# Altium schematic symbol library ZX_MyLib.SchLib: 567 symbols (part 3 of 5)
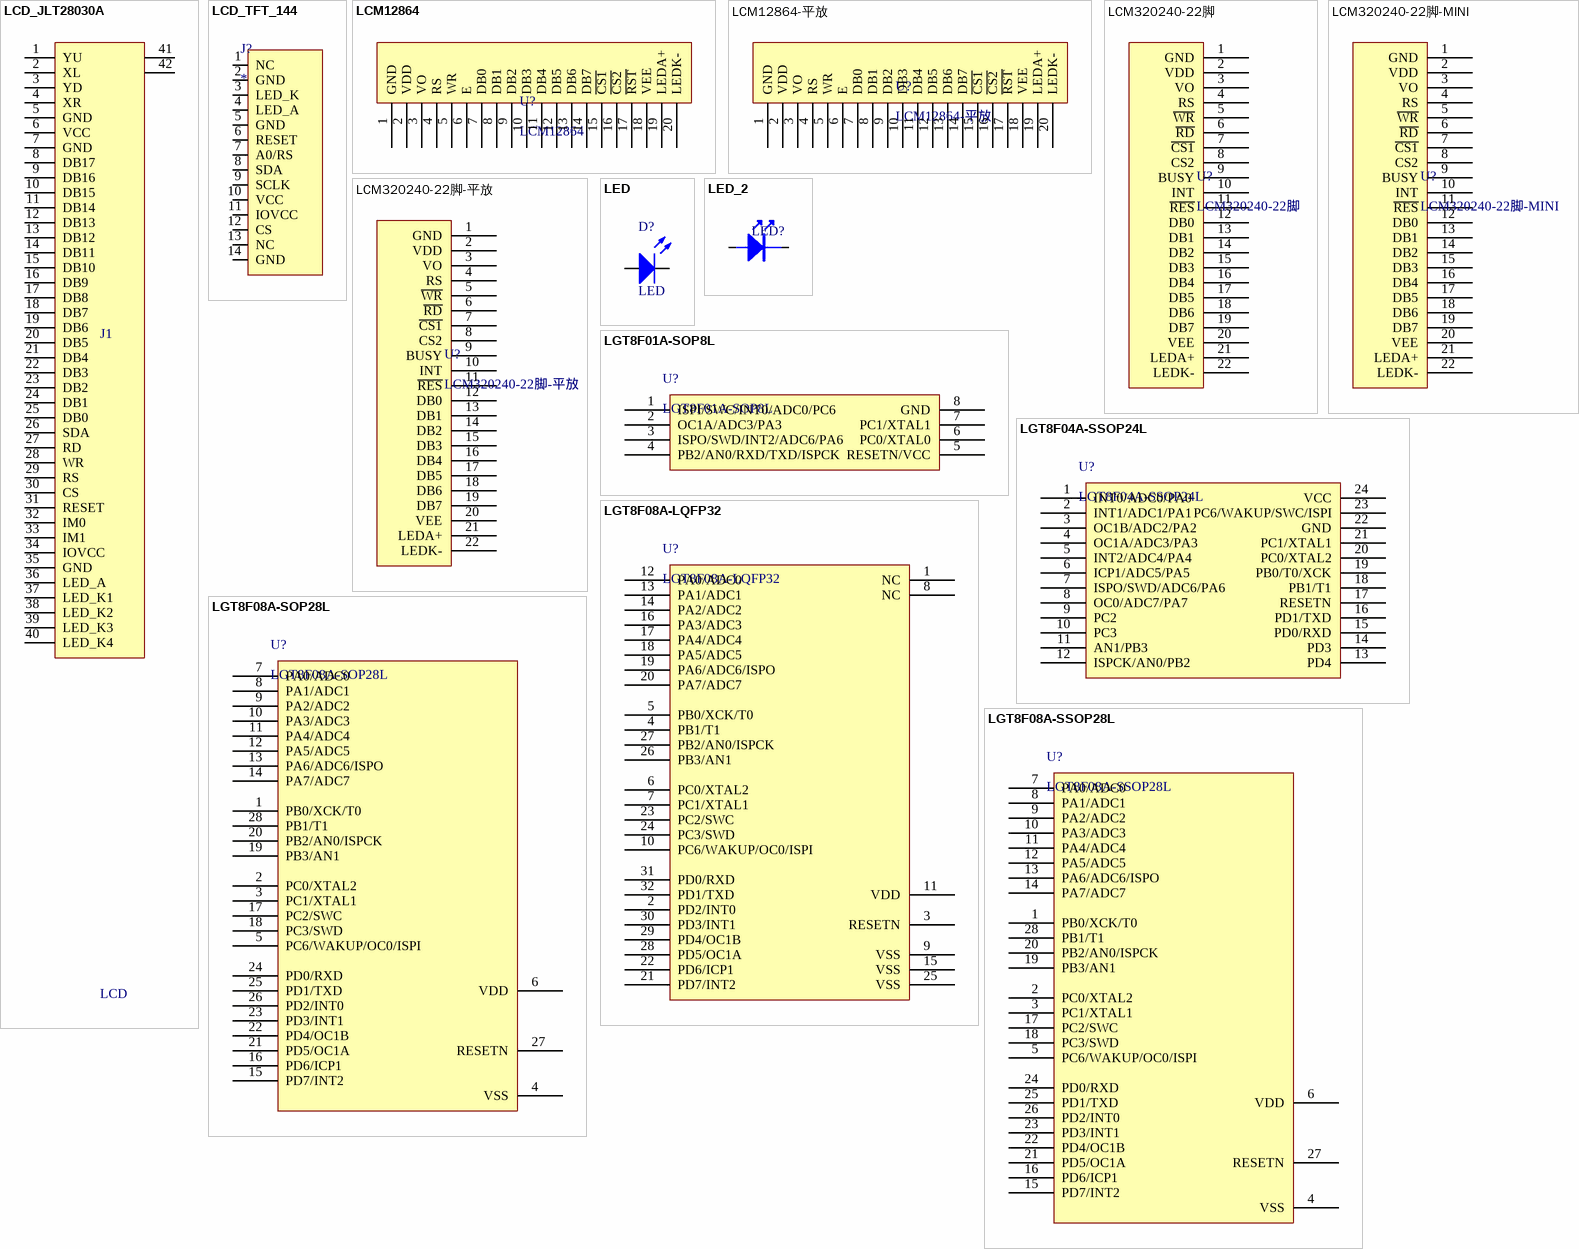
[diagram p32: symbols LCD_JLT28030A to LGT8F08A-SSOP28L]

## LCD_TFT_144
designator J?
footprint LCD_TFT_144 (淘宝深圳市华迪快捷液晶ST7735,1.44寸TFT液晶屏SPI)
pins: 1 NC, 2 GND, 3 LED_K, 4 LED_A, 5 GND, 6 RESET, 7 A0/RS, 8 SDA, 9 SCLK, 10 VCC, 11 IOVCC, 12 CS, 13 NC, 14 GND

## LCM12864
designator U?
footprint LCM12864
pins: 1 GND, 2 VDD, 3 VO, 4 RS, 5 WR, 6 E, 7 DB0, 8 DB1, 9 DB2, 10 DB3, 11 DB4, 12 DB5, 13 DB6, 14 DB7, 15 ~{CS1}, 16 ~{CS2}, 17 ~{RST}, 18 VEE, 19 LEDA+, 20 LEDK-

## LCM12864-平放
designator U?
footprint LCM12864-平放
pins: 1 GND, 2 VDD, 3 VO, 4 RS, 5 WR, 6 E, 7 DB0, 8 DB1, 9 DB2, 10 DB3, 11 DB4, 12 DB5, 13 DB6, 14 DB7, 15 ~{CS1}, 16 ~{CS2}, 17 ~{RST}, 18 VEE, 19 LEDA+, 20 LEDK-

## LCM320240-22脚
designator U?
footprint LCM320240-22脚
pins: 1 GND, 2 VDD, 3 VO, 4 RS, 5 ~{WR}, 6 ~{RD}, 7 ~{CS1}, 8 CS2, 9 BUSY, 10 INT, 11 ~{RES}, 12 DB0, 13 DB1, 14 DB2, 15 DB3, 16 DB4, 17 DB5, 18 DB6, 19 DB7, 20 VEE, 21 LEDA+, 22 LEDK-

## LCM320240-22脚-MINI
designator U?
footprint LCM320240-22脚-Mini (LCM320240-22脚)
pins: 1 GND, 2 VDD, 3 VO, 4 RS, 5 ~{WR}, 6 ~{RD}, 7 ~{CS1}, 8 CS2, 9 BUSY, 10 INT, 11 ~{RES}, 12 DB0, 13 DB1, 14 DB2, 15 DB3, 16 DB4, 17 DB5, 18 DB6, 19 DB7, 20 VEE, 21 LEDA+, 22 LEDK-

## LCM320240-22脚-平放
designator U?
footprint LCM320240-22脚-平放
pins: 1 GND, 2 VDD, 3 VO, 4 RS, 5 ~{WR}, 6 ~{RD}, 7 ~{CS1}, 8 CS2, 9 BUSY, 10 INT, 11 ~{RES}, 12 DB0, 13 DB1, 14 DB2, 15 DB3, 16 DB4, 17 DB5, 18 DB6, 19 DB7, 20 VEE, 21 LEDA+, 22 LEDK-

## LED
designator D?
贴片发光二极管; Published: 8-Jun-2000; LatestRevisionDate: 08-Jul-2005; LatestRevisionNote: Mech Layer 1 removed.; PackageReference: LED-1; Publisher: Altium Limited
footprint 0805 - LED
footprint 0603_LED_SMT
pins: 1 A, 2 K

## LED_2
designator LED?
SMT LED
pins: 1 A, 2 K

## LGT8F01A-SOP8L
designator U?
footprint LGT8F01A-SOP8L
pins: 1 ISPI/SWC/INT0/ADC0/PC6, 2 OC1A/ADC3/PA3, 3 ISPO/SWD/INT2/ADC6/PA6, 4 PB2/AN0/RXD/TXD/ISPCK, 5 RESETN/VCC, 6 PC0/XTAL0, 7 PC1/XTAL1, 8 GND

## LGT8F04A-SSOP24L
designator U?
footprint LGT8F04A-SSOP24 (SSOP, Plastic; 24 Leads; Body Width 5.3 mm; Pitch 0.65 mm)
pins: 1 INT0/ADC0/PA0, 2 INT1/ADC1/PA1, 3 OC1B/ADC2/PA2, 4 OC1A/ADC3/PA3, 5 INT2/ADC4/PA4, 6 ICP1/ADC5/PA5, 7 ISPO/SWD/ADC6/PA6, 8 OC0/ADC7/PA7, 9 PC2, 10 PC3, 11 AN1/PB3, 12 ISPCK/AN0/PB2, 13 PD4, 14 PD3, 15 PD0/RXD, 16 PD1/TXD, 17 RESETN, 18 PB1/T1, 19 PB0/T0/XCK, 20 PC0/XTAL2, 21 PC1/XTAL1, 22 GND, 23 PC6/WAKUP/SWC/ISPI, 24 VCC

## LGT8F08A-LQFP32
designator U?
Publisher: www.ourdev.cn; PackageReference: LQFP32; PackageDescription: 28-Lead Plastic Small Outline (SO) - Wide 7.50mm Body [SOIC]; ComponentLink1Description: Datasheet; ComponentLink1URL: http://www.mcugreen.com/LGT8F0XA/docs/LGT8F0XA%20Series%20Programming%20Manual%20v1.2.pdf; ComponentLink2Description: Packaging Specification; ComponentLink3Description: LogicGreen Home; ComponentLink3URL: http://www.mcugreen.com/; DatasheetVersion: v1.2; LatestRevisionDate: 2012/04/18; Supplier 1: www.mailshop.cn; Supplier Part Number 1: LGT8F08A-SOP28L; Supplier Part Number 3: 10647
footprint LGT8F08A-LQFP32 (32-Pin Thin Quad Flat Pack 0.8 mm Pitch, IPC Medium Density)
pins: 1 NC, 2 PD2/INT0, 3 RESETN, 4 PB1/T1, 5 PB0/XCK/T0, 6 PC0/XTAL2, 7 PC1/XTAL1, 8 NC, 9 VSS, 10 PC6/WAKUP/OC0/ISPI, 11 VDD, 12 PA0/ADC0, 13 PA1/ADC1, 14 PA2/ADC2, 15 VSS, 16 PA3/ADC3, 17 PA4/ADC4, 18 PA5/ADC5, 19 PA6/ADC6/ISPO, 20 PA7/ADC7, 21 PD7/INT2, 22 PD6/ICP1, 23 PC2/SWC, 24 PC3/SWD, 25 VSS, 26 PB3/AN1, 27 PB2/AN0/ISPCK, 28 PD5/OC1A, 29 PD4/OC1B, 30 PD3/INT1, 31 PD0/RXD, 32 PD1/TXD
1 alternate drawing of the same symbol

## LGT8F08A-SOP28L
designator U?
Publisher: www.ourdev.cn; PackageReference: SOP28L; PackageDescription: 28-Lead Plastic Small Outline (SO) - Wide 7.50mm Body [SOIC]; ComponentLink1Description: Datasheet; ComponentLink1URL: http://www.mcugreen.com/LGT8F0XA/docs/LGT8F0XA%20Series%20Programming%20Manual%20v1.2.pdf; ComponentLink2Description: Packaging Specification; ComponentLink3Description: LogicGreen Home; ComponentLink3URL: http://www.mcugreen.com/; DatasheetVersion: v1.2; LatestRevisionDate: 2012/04/18; Supplier 1: www.mailshop.cn; Supplier Part Number 1: LGT8F08A-SOP28L; Supplier Part Number 3: 10647
footprint LGT8F08A-SOP28L (SOP, 28-Leads, Body 17.6x7.7mm (max), Pitch 1.27mm, IPC Low Density)
pins: 1 PB0/XCK/T0, 2 PC0/XTAL2, 3 PC1/XTAL1, 4 VSS, 5 PC6/WAKUP/OC0/ISPI, 6 VDD, 7 PA0/ADC0, 8 PA1/ADC1, 9 PA2/ADC2, 10 PA3/ADC3, 11 PA4/ADC4, 12 PA5/ADC5, 13 PA6/ADC6/ISPO, 14 PA7/ADC7, 15 PD7/INT2, 16 PD6/ICP1, 17 PC2/SWC, 18 PC3/SWD, 19 PB3/AN1, 20 PB2/AN0/ISPCK, 21 PD5/OC1A, 22 PD4/OC1B, 23 PD3/INT1, 24 PD0/RXD, 25 PD1/TXD, 26 PD2/INT0, 27 RESETN, 28 PB1/T1
1 alternate drawing of the same symbol

## LGT8F08A-SSOP28L
designator U?
Publisher: www.ourdev.cn; PackageReference: SSOP28; PackageDescription: 28-Lead Plastic Small Outline (SO) - Wide 7.50mm Body [SOIC]; ComponentLink1Description: Datasheet; ComponentLink1URL: http://www.mcugreen.com/LGT8F0XA/docs/LGT8F0XA%20Series%20Programming%20Manual%20v1.2.pdf; ComponentLink2Description: Packaging Specification; ComponentLink3Description: LogicGreen Home; ComponentLink3URL: http://www.mcugreen.com/; DatasheetVersion: v1.2; LatestRevisionDate: 2012/04/18; Supplier 1: www.mailshop.cn; Supplier Part Number 1: LGT8F08A-SOP28L; Supplier Part Number 3: 10647
footprint LGT8F08A-SSOP28 (SSOP, Plastic; 28 Leads; Body Width 5.3 mm; Pitch 0.65 mm)
pins: 1 PB0/XCK/T0, 2 PC0/XTAL2, 3 PC1/XTAL1, 4 VSS, 5 PC6/WAKUP/OC0/ISPI, 6 VDD, 7 PA0/ADC0, 8 PA1/ADC1, 9 PA2/ADC2, 10 PA3/ADC3, 11 PA4/ADC4, 12 PA5/ADC5, 13 PA6/ADC6/ISPO, 14 PA7/ADC7, 15 PD7/INT2, 16 PD6/ICP1, 17 PC2/SWC, 18 PC3/SWD, 19 PB3/AN1, 20 PB2/AN0/ISPCK, 21 PD5/OC1A, 22 PD4/OC1B, 23 PD3/INT1, 24 PD0/RXD, 25 PD1/TXD, 26 PD2/INT0, 27 RESETN, 28 PB1/T1
1 alternate drawing of the same symbol

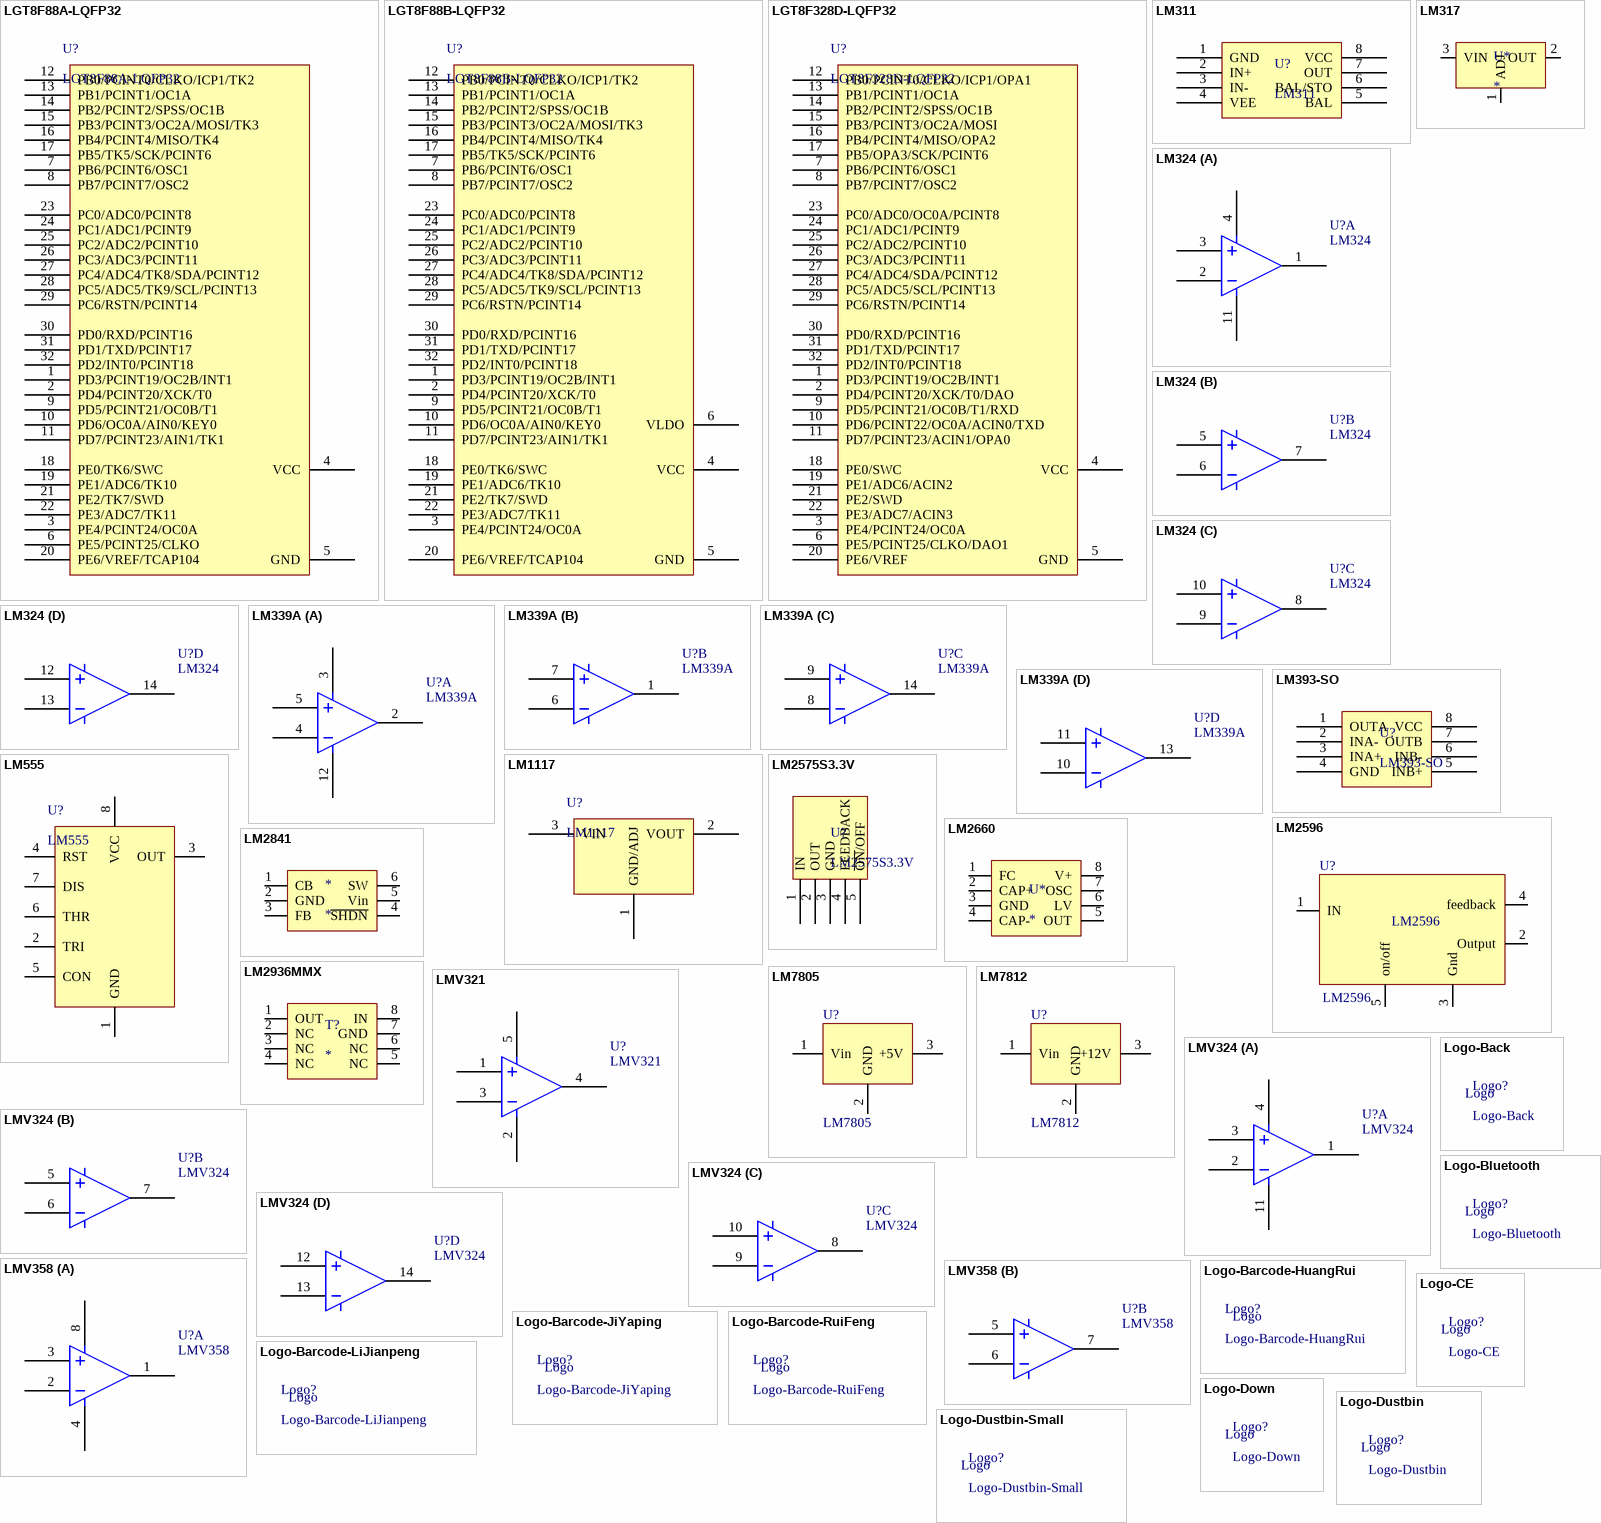
[diagram p15: symbols LGT8F88A-LQFP32 to Logo-Dustbin-Small]

## LGT8F88A-LQFP32
designator U?
Publisher: www.ourdev.cn; PackageReference: LQFP32; PackageDescription: 28-Lead Plastic Small Outline (SO) - Wide 7.50mm Body [SOIC]; ComponentLink1Description: Datasheet; ComponentLink1URL: http://www.mcugreen.com/LGT8F0XA/docs/LGT8F0XA%20Series%20Programming%20Manual%20v1.2.pdf; ComponentLink2Description: Packaging Specification; ComponentLink3Description: LogicGreen Home; ComponentLink3URL: http://www.mcugreen.com/; DatasheetVersion: v1.1.1; LatestRevisionDate: 2013/06/27; Supplier 1: www.mailshop.cn; Supplier Part Number 1: LGT8F88A-LQFP32
footprint LGT8F88A-LQFP32 (32-Pin Thin Quad Flat Pack 0.8 mm Pitch, IPC Medium Density)
pins: 1 PD3/PCINT19/OC2B/INT1, 2 PD4/PCINT20/XCK/T0, 3 PE4/PCINT24/OC0A, 4 VCC, 5 GND, 6 PE5/PCINT25/CLKO, 7 PB6/PCINT6/OSC1, 8 PB7/PCINT7/OSC2, 9 PD5/PCINT21/OC0B/T1, 10 PD6/OC0A/AIN0/KEY0, 11 PD7/PCINT23/AIN1/TK1, 12 PB0/PCINT0/CLKO/ICP1/TK2, 13 PB1/PCINT1/OC1A, 14 PB2/PCINT2/SPSS/OC1B, 15 PB3/PCINT3/OC2A/MOSI/TK3, 16 PB4/PCINT4/MISO/TK4, 17 PB5/TK5/SCK/PCINT6, 18 PE0/TK6/SWC, 19 PE1/ADC6/TK10, 20 PE6/VREF/TCAP104, 21 PE2/TK7/SWD, 22 PE3/ADC7/TK11, 23 PC0/ADC0/PCINT8, 24 PC1/ADC1/PCINT9, 25 PC2/ADC2/PCINT10, 26 PC3/ADC3/PCINT11, 27 PC4/ADC4/TK8/SDA/PCINT12, 28 PC5/ADC5/TK9/SCL/PCINT13, 29 PC6/RSTN/PCINT14, 30 PD0/RXD/PCINT16, 31 PD1/TXD/PCINT17, 32 PD2/INT0/PCINT18
1 alternate drawing of the same symbol

## LGT8F88B-LQFP32
designator U?
Publisher: www.ourdev.cn; PackageReference: LQFP32; PackageDescription: 28-Lead Plastic Small Outline (SO) - Wide 7.50mm Body [SOIC]; ComponentLink1Description: Datasheet; ComponentLink1URL: http://www.mcugreen.com/LGT8F0XA/docs/LGT8F0XA%20Series%20Programming%20Manual%20v1.2.pdf; ComponentLink2Description: Packaging Specification; ComponentLink3Description: LogicGreen Home; ComponentLink3URL: http://www.mcugreen.com/; DatasheetVersion: v1.1.1; LatestRevisionDate: 2013/06/27; Supplier 1: www.mailshop.cn; Supplier Part Number 1: LGT8F88B-LQFP32
footprint LGT8F88A-LQFP32 (32-Pin Thin Quad Flat Pack 0.8 mm Pitch, IPC Medium Density)
pins: 1 PD3/PCINT19/OC2B/INT1, 2 PD4/PCINT20/XCK/T0, 3 PE4/PCINT24/OC0A, 4 VCC, 5 GND, 6 VLDO, 7 PB6/PCINT6/OSC1, 8 PB7/PCINT7/OSC2, 9 PD5/PCINT21/OC0B/T1, 10 PD6/OC0A/AIN0/KEY0, 11 PD7/PCINT23/AIN1/TK1, 12 PB0/PCINT0/CLKO/ICP1/TK2, 13 PB1/PCINT1/OC1A, 14 PB2/PCINT2/SPSS/OC1B, 15 PB3/PCINT3/OC2A/MOSI/TK3, 16 PB4/PCINT4/MISO/TK4, 17 PB5/TK5/SCK/PCINT6, 18 PE0/TK6/SWC, 19 PE1/ADC6/TK10, 20 PE6/VREF/TCAP104, 21 PE2/TK7/SWD, 22 PE3/ADC7/TK11, 23 PC0/ADC0/PCINT8, 24 PC1/ADC1/PCINT9, 25 PC2/ADC2/PCINT10, 26 PC3/ADC3/PCINT11, 27 PC4/ADC4/TK8/SDA/PCINT12, 28 PC5/ADC5/TK9/SCL/PCINT13, 29 PC6/RSTN/PCINT14, 30 PD0/RXD/PCINT16, 31 PD1/TXD/PCINT17, 32 PD2/INT0/PCINT18
1 alternate drawing of the same symbol

## LGT8F328D-LQFP32
designator U?
Publisher: www.ourdev.cn; PackageReference: LQFP32; PackageDescription: 28-Lead Plastic Small Outline (SO) - Wide 7.50mm Body [SOIC]; ComponentLink1Description: Datasheet; ComponentLink1URL: http://www.mcugreen.com/LGT8F0XA/docs/LGT8F0XA%20Series%20Programming%20Manual%20v1.2.pdf; ComponentLink2Description: Packaging Specification; ComponentLink3Description: LogicGreen Home; ComponentLink3URL: http://www.mcugreen.com/; DatasheetVersion: v1.1.1; LatestRevisionDate: 2013/06/27; Supplier 1: www.mailshop.cn; Supplier Part Number 1: LGT8F328D-LQFP32
footprint LQFP32_L (Thin QFP, 32-Leads, Body 7x7mm, Pitch 0.8mm, IPC High Density)
footprint LQFP32_M (Thin QFP, 32-Leads, Body 7x7mm, Pitch 0.8mm, IPC Low Density)
footprint LQFP32_N (Thin QFP, 32-Leads, Body 7x7mm, Pitch 0.8mm, IPC Medium Density)
pins: 1 PD3/PCINT19/OC2B/INT1, 2 PD4/PCINT20/XCK/T0/DAO, 3 PE4/PCINT24/OC0A, 4 VCC, 5 GND, 6 PE5/PCINT25/CLKO/DAO1, 7 PB6/PCINT6/OSC1, 8 PB7/PCINT7/OSC2, 9 PD5/PCINT21/OC0B/T1/RXD, 10 PD6/PCINT22/OC0A/ACIN0/TXD, 11 PD7/PCINT23/ACIN1/OPA0, 12 PB0/PCINT0/CLKO/ICP1/OPA1, 13 PB1/PCINT1/OC1A, 14 PB2/PCINT2/SPSS/OC1B, 15 PB3/PCINT3/OC2A/MOSI, 16 PB4/PCINT4/MISO/OPA2, 17 PB5/OPA3/SCK/PCINT6, 18 PE0/SWC, 19 PE1/ADC6/ACIN2, 20 PE6/VREF, 21 PE2/SWD, 22 PE3/ADC7/ACIN3, 23 PC0/ADC0/OC0A/PCINT8, 24 PC1/ADC1/PCINT9, 25 PC2/ADC2/PCINT10, 26 PC3/ADC3/PCINT11, 27 PC4/ADC4/SDA/PCINT12, 28 PC5/ADC5/SCL/PCINT13, 29 PC6/RSTN/PCINT14, 30 PD0/RXD/PCINT16, 31 PD1/TXD/PCINT17, 32 PD2/INT0/PCINT18
1 alternate drawing of the same symbol

## LM311
designator U?
footprint LM311
pins: 1 GND, 2 IN+, 3 IN-, 4 VEE, 5 BAL, 6 BAL/STO, 7 OUT, 8 VCC

## LM317
designator U*
footprint SOT-223
pins: 1 ADJ, 2 OUT, 3 VIN

## LM324
designator U?
Low-Power Amplifiers
footprint LM324-D
footprint LM324-N
part A pins: 1 1OUT "Output 1", 2 1IN– "Inverting input 1", 3 1IN+ "Non-inverting input 1", 4 VCC "Positive supply voltage", 11 GND "Ground"
part B pins: 5 2IN+ "Non-inverting input 2", 6 2IN- "Inverting input 2", 7 2OUT "Output 2"
part C pins: 8 3OUT "Output 3", 9 3IN- "Inverting input 1", 10 3IN+ "Non-inverting input 3"
part D pins: 12 4IN+ "Non-inverting input 4", 13 4IN- "Inverting input 4", 14 4OUT "Output 4"

## LM339A
designator U?
footprint LM339A
part A pins: 2, 3, 4, 5, 12
part B pins: 1, 6, 7
part C pins: 8, 9, 14
part D pins: 10, 11, 13

## LM393-SO
designator U?
footprint LM393-SO
pins: 1 OUTA, 2 INA-, 3 INA+, 4 GND, 5 INB+, 6 INB-, 7 OUTB, 8 VCC

## LM555
designator U?
Timer,highly stable device for generating accurate timedelays or oscillation.
footprint DIP-8 (DIP8封装，100mil间距，300mil引脚宽度)
footprint SOP-8 (8-Pin Small Outline Integrated Circuit 1.27 mm Pitch, IPC Low Density)
pins: 1 GND, 2 TRI, 3 OUT, 4 RST, 5 CON, 6 THR, 7 DIS, 8 VCC

## LM1117
designator U?
LM1117/LM1117I 800mA Low-Dropout Linear Regulator
footprint SOT-223 (3 LEAD SOT-223 PLASTIC PACKAGE)
pins: 1 GND/ADJ "Ground or Adjust", 2 VOUT "Voltage Output", 3 VIN "Voltage Input"

## LM2575S3.3V
designator U?
footprint LM2575S3.3V
pins: 1 IN, 2 OUT, 3 GND, 4 FEEDBACK, 5 ~{ON}/OFF

## LM2596
designator U?
footprint TO-263-5
pins: 1 IN, 2 Output, 3 Gnd, 4 feedback, 5 on/off

## LM2660
designator U*
footprint MSOP8
pins: 1 FC, 2 CAP+, 3 GND, 4 CAP-, 5 OUT, 6 LV, 7 OSC, 8 V+

## LM2841
designator *
footprint SOT-6L
pins: 1 CB, 2 GND, 3 FB, 4 ~{SHDN}, 5 Vin, 6 SW

## LM2936MMX
designator T?
LM2936MMX-5.0
footprint MSOP8
pins: 1 OUT, 2 NC, 3 NC, 4 NC, 5 NC, 6 NC, 7 GND, 8 IN

## LM7805
designator U?
LM7805 POSITIVE-VOLTAGE REGULATORS
footprint LM78XX
pins: 1 Vin, 2 GND, 3 +5V

## LM7812
designator U?
LM7812 POSITIVE-VOLTAGE REGULATORS
footprint LM78XX
pins: 1 Vin, 2 GND, 3 +12V

## LMV321
designator U?
Low-Voltage Rail-To-Rail Output Operational Amplifiers
footprint SC70-5 (SC70/SOT-323 (DCK) Package. 5-Lead Plastic SC70.)
footprint SOT23-5 (SOT-23/SC-74A; 5 Leads; Body 3 x 3 mm, inc. leads (LxW max))
pins: 1 1IN+ "Non-inverting input 1", 2 GND "Ground", 3 1IN– "Inverting input 1", 4 1OUT "Output 1", 5 VCC "Positive supply voltage"

## LMV324
designator U?
Low-Voltage Rail-To-Rail Output Operational Amplifiers
footprint LM324-D
part A pins: 1 1OUT "Output 1", 2 1IN– "Inverting input 1", 3 1IN+ "Non-inverting input 1", 4 VCC "Positive supply voltage", 11 GND "Ground"
part B pins: 5 2IN+ "Non-inverting input 2", 6 2IN- "Inverting input 2", 7 2OUT "Output 2"
part C pins: 8 3OUT "Output 3", 9 3IN- "Inverting input 1", 10 3IN+ "Non-inverting input 3"
part D pins: 12 4IN+ "Non-inverting input 4", 13 4IN- "Inverting input 4", 14 4OUT "Output 4"

## LMV358
designator U?
Low-Voltage Rail-To-Rail Output Operational Amplifiers
footprint SOP-8_N (8-Pin Small Outline Integrated Circuit 1.27 mm Pitch, IPC Medium Density)
footprint SOP-8_L (8-Pin Small Outline Integrated Circuit 1.27 mm Pitch, IPC High Density)
footprint SOP-8_M (8-Pin Small Outline Integrated Circuit 1.27 mm Pitch, IPC Low Density)
part A pins: 1 1OUT "Output 1", 2 1IN– "Inverting input 1", 3 1IN+ "Non-inverting input 1", 4 GND "Ground", 8 VCC "Positive supply voltage"
part B pins: 5 2IN+ "Non-inverting input 2", 6 2IN- "Inverting input 2", 7 2OUT "Output 2"

## Logo-Back
designator Logo?
footprint LOGO-BACK
text: Logo

## Logo-Barcode-HuangRui
designator Logo?
footprint Logo-Barcode-HuangRui
footprint Logo-Barcode-HuangRui-Big (Logo-Barcode-HuangRui)
text: Logo

## Logo-Barcode-JiYaping
designator Logo?
footprint Logo-Barcode-JiYaping-Big (Logo-Barcode-JiYaping)
text: Logo

## Logo-Barcode-LiJianpeng
designator Logo?
footprint Logo-Barcode-LiJianpeng
text: Logo

## Logo-Barcode-RuiFeng
designator Logo?
footprint LOGO-BARCODE-RUIFENG
text: Logo

## Logo-Bluetooth
designator Logo?
footprint Logo-Bluetooth
text: Logo

## Logo-CE
designator Logo?
footprint Logo-CE
text: Logo

## Logo-Down
designator Logo?
footprint LOGO-DOWN
text: Logo

## Logo-Dustbin
designator Logo?
footprint LOGO-DUSTBIN
text: Logo

## Logo-Dustbin-Small
designator Logo?
footprint Logo-Dustbin-Small
text: Logo

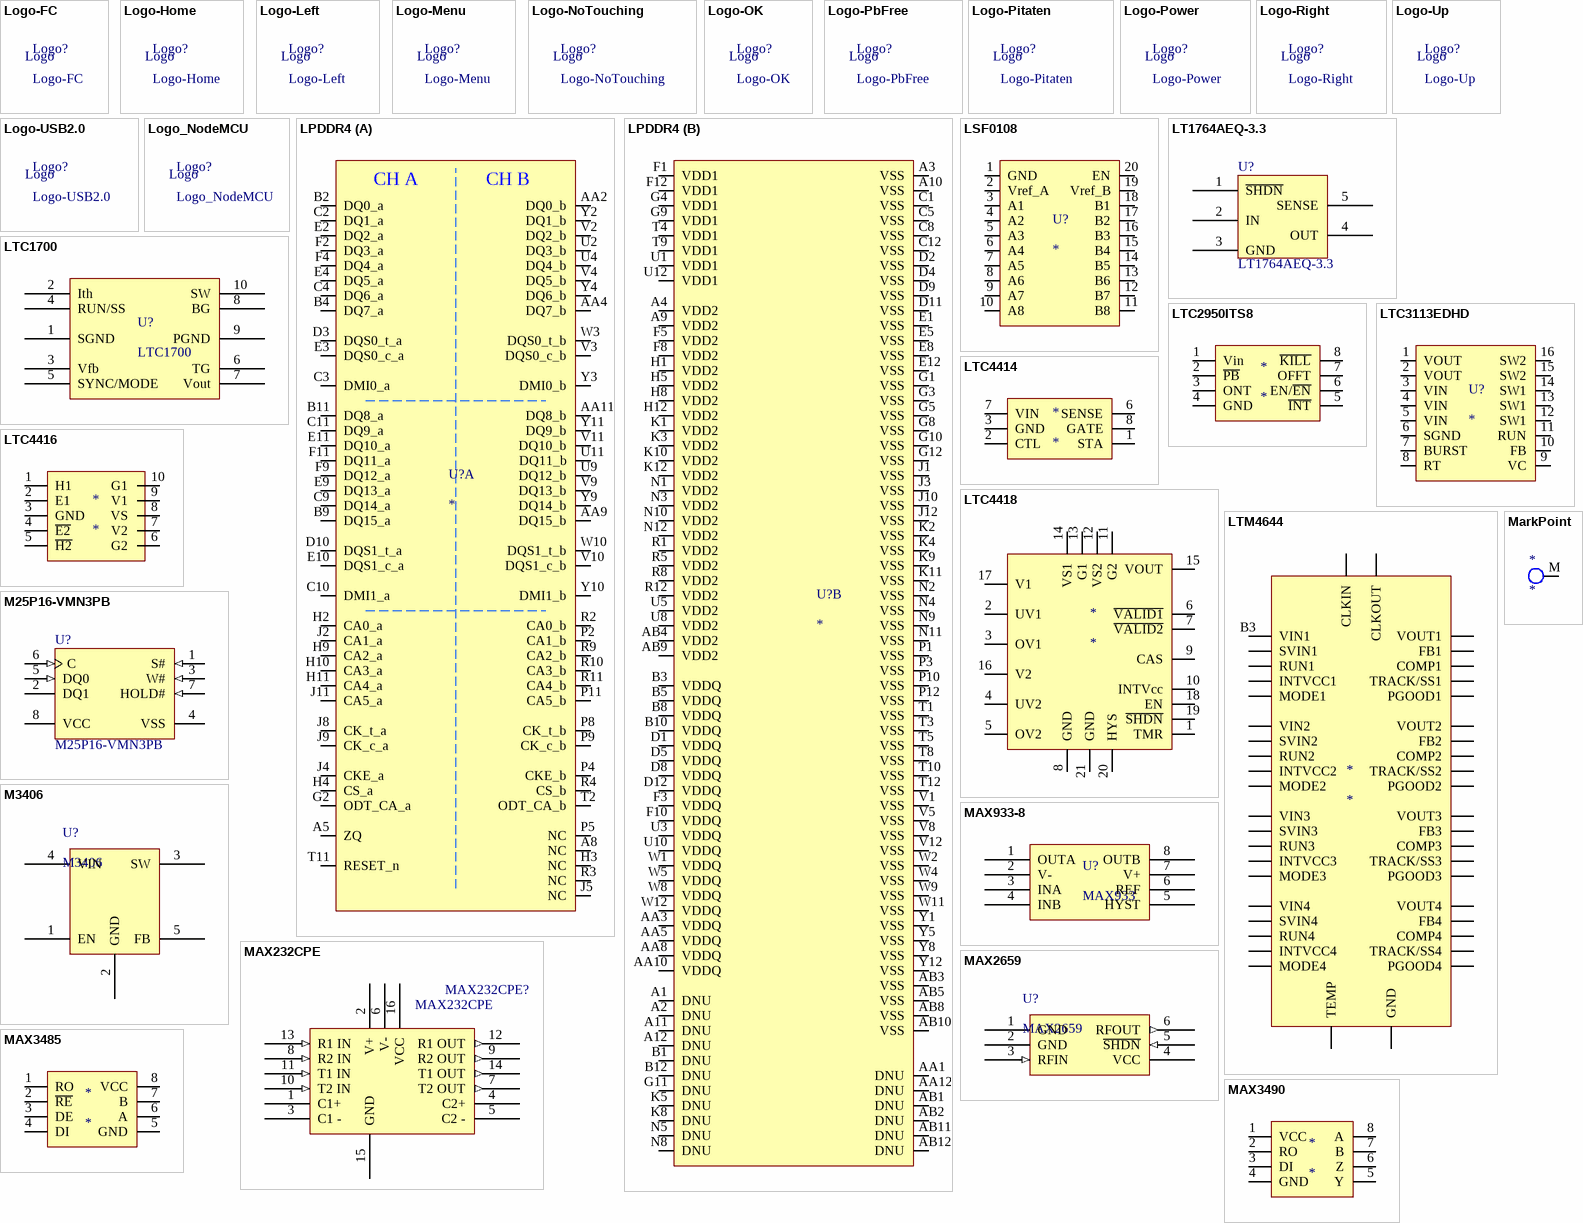
[diagram p16: symbols Logo-FC to MAX3490]

## Logo-FC
designator Logo?
footprint Logo-FC
text: Logo

## Logo-Home
designator Logo?
footprint LOGO-HOME
text: Logo

## Logo-Left
designator Logo?
footprint LOGO-LEFT
text: Logo

## Logo-Menu
designator Logo?
footprint LOGO-MENU
text: Logo

## Logo-NoTouching
designator Logo?
footprint LOGO-NOTOUCHING
text: Logo

## Logo-OK
designator Logo?
footprint LOGO-OK
text: Logo

## Logo-PbFree
designator Logo?
footprint LOGO-PBFREE
text: Logo

## Logo-Pitaten
designator Logo?
footprint Logo-Pitaten
text: Logo

## Logo-Power
designator Logo?
footprint LOGO-POWER
text: Logo

## Logo-Right
designator Logo?
footprint LOGO-RIGHT
text: Logo

## Logo-Up
designator Logo?
footprint LOGO-UP
text: Logo

## Logo-USB2.0
designator Logo?
footprint Logo-USB2.0
text: Logo

## Logo_NodeMCU
designator Logo?
Logo NodeMCU
footprint Logo_NodeMCU_700x992 (Logo NodeMCU)
text: Logo

## LPDDR4
designator U?
footprint FBGA_200 (LPDDR4, 10x15mm)
part A pins: A5 ZQ, A8 NC, AA2 DQ0_b, AA4 DQ7_b, AA9 DQ15_b, AA11 DQ8_b, B2 DQ0_a, B4 DQ7_a, B9 DQ15_a, B11 DQ8_a, C2 DQ1_a, C3 DMI0_a, C4 DQ6_a, C9 DQ14_a, C10 DMI1_a, C11 DQ9_a, D3 DQS0_t_a, D10 DQS1_t_a, E2 DQ2_a, E3 DQS0_c_a, E4 DQ5_a, E9 DQ13_a, E10 DQS1_c_a, E11 DQ10_a, F2 DQ3_a, F4 DQ4_a, F9 DQ12_a, F11 DQ11_a, G2 ODT_CA_a, H2 CA0_a, H3 NC, H4 CS_a, H9 CA2_a, H10 CA3_a, H11 CA4_a, J2 CA1_a, J4 CKE_a, J5 NC, J8 CK_t_a, J9 CK_c_a, J11 CA5_a, P2 CA1_b, P4 CKE_b, P5 NC, P8 CK_t_b, P9 CK_c_b, P11 CA5_b, R2 CA0_b, R3 NC, R4 CS_b, R9 CA2_b, R10 CA3_b, R11 CA4_b, T2 ODT_CA_b, T11 RESET_n, U2 DQ3_b, U4 DQ4_b, U9 DQ12_b, U11 DQ11_b, V2 DQ2_b, V3 DQS0_c_b, V4 DQ5_b, V9 DQ13_b, V10 DQS1_c_b, V11 DQ10_b, W3 DQS0_t_b, W10 DQS1_t_b, Y2 DQ1_b, Y3 DMI0_b, Y4 DQ6_b, Y9 DQ14_b, Y10 DMI1_b, Y11 DQ9_b
part B pins: A1 DNU, A2 DNU, A3 VSS, A4 VDD2, A9 VDD2, A10 VSS, A11 DNU, A12 DNU, AA1 DNU, AA3 VDDQ, AA5 VDDQ, AA8 VDDQ, AA10 VDDQ, AA12 DNU, AB1 DNU, AB2 DNU, AB3 VSS, AB4 VDD2, AB5 VSS, AB8 VSS, AB9 VDD2, AB10 VSS, AB11 DNU, AB12 DNU, B1 DNU, B3 VDDQ, B5 VDDQ, B8 VDDQ, B10 VDDQ, B12 DNU, C1 VSS, C5 VSS, C8 VSS, C12 VSS, D1 VDDQ, D2 VSS, D4 VSS, D5 VDDQ, D8 VDDQ, D9 VSS, D11 VSS, D12 VDDQ, E1 VSS, E5 VSS, E8 VSS, E12 VSS, F1 VDD1, F3 VDDQ, F5 VDD2, F8 VDD2, F10 VDDQ, F12 VDD1, G1 VSS, G3 VSS, G4 VDD1, G5 VSS, G8 VSS, G9 VDD1, G10 VSS, G11 DNU, G12 VSS, H1 VDD2, H5 VDD2, H8 VDD2, H12 VDD2, J1 VSS, J3 VSS, J10 VSS, J12 VSS, K1 VDD2, K2 VSS, K3 VDD2, K4 VSS, K5 DNU, K8 DNU, K9 VSS, K10 VDD2, K11 VSS, K12 VDD2, N1 VDD2, N2 VSS, N3 VDD2, N4 VSS, N5 DNU, N8 DNU, N9 VSS, N10 VDD2, N11 VSS, N12 VDD2, P1 VSS, P3 VSS, P10 VSS, P12 VSS, R1 VDD2, R5 VDD2, R8 VDD2, R12 VDD2, T1 VSS, T3 VSS, T4 VDD1, T5 VSS, T8 VSS, T9 VDD1, T10 VSS, T12 VSS, U1 VDD1, U3 VDDQ, U5 VDD2, U8 VDD2, U10 VDDQ, U12 VDD1, V1 VSS, V5 VSS, V8 VSS, V12 VSS, W1 VDDQ, W2 VSS, W4 VSS, W5 VDDQ, W8 VDDQ, W9 VSS, W11 VSS, W12 VDDQ, Y1 VSS, Y5 VSS, Y8 VSS, Y12 VSS
part A text: CH A; CH B

## LSF0108
designator U?
8通道双向多电压电平转换器
footprint TSSOP-20 (SSOP; 20 Leads; Body Width 3.9 mm; Pitch 0.64 mm)
pins: 1 GND, 2 Vref_A, 3 A1, 4 A2, 5 A3, 6 A4, 7 A5, 8 A6, 9 A7, 10 A8, 11 B8, 12 B7, 13 B6, 14 B5, 15 B4, 16 B3, 17 B2, 18 B1, 19 Vref_B, 20 EN

## LT1764AEQ-3.3
designator U?
footprint PDDP5
pins: 1 ~{SHDN}, 2 IN, 3 GND, 4 OUT, 5 SENSE

## LTC1700
designator U?
LTC1700 No RSENSE Synchronous  Step-Up DC/DC Controller
footprint LTC1700 (Shrink Small Outline; 10 Leads; Body Width 3 mm; Pitch 0.5 mm)
pins: 1 SGND, 2 Ith, 3 Vfb, 4 RUN/SS, 5 SYNC/MODE, 6 TG, 7 Vout, 8 BG, 9 PGND, 10 SW

## LTC2950ITS8
designator *
footprint S8
pins: 1 Vin, 2 ~{PB}, 3 ONT, 4 GND, 5 ~{INT}, 6 EN/~{EN}, 7 OFFT, 8 ~{KILL}

## LTC3113EDHD
designator U?
footprint DFN16_5x4mm
pins: 1 VOUT, 2 VOUT, 3 VIN, 4 VIN, 5 VIN, 6 SGND, 7 BURST, 8 RT, 9 VC, 10 FB, 11 RUN, 12 SW1, 13 SW1, 14 SW1, 15 SW2, 16 SW2

## LTC4414
designator *
footprint MSOP8
pins: 1 STA, 2 CTL, 3 GND, 6 SENSE, 7 VIN, 8 GATE

## LTC4416
designator *
footprint MSOP10
pins: 1 H1, 2 E1, 3 GND, 4 ~{E2}, 5 ~{H2}, 6 G2, 7 V2, 8 VS, 9 V1, 10 G1

## LTC4418
designator *
pins: 1 TMR, 2 UV1, 3 OV1, 4 UV2, 5 OV2, 6 ~{VALID1}, 7 ~{VALID2}, 8 GND, 9 CAS, 10 INTVcc, 11 G2, 12 VS2, 13 G1, 14 VS1, 15 VOUT, 16 V2, 17 V1, 18 EN, 19 ~{SHDN}, 20 HYS, 21 GND

## LTM4644
designator *
footprint LTM4644-BGA
pins: A1 VOUT1, A4 GND, A6 TRACK/SS1, A7 FB1, B3 VIN1, B5 SVIN1, B6 MODE1, B7 COMP1, C1 VOUT2, C2 PGOOD2, C3 PGOOD1, C4 INTVCC1, C6 RUN1, C7 CLKIN, D6 TRACK/SS2, D7 FB2, E3 VIN2, E5 SVIN2, E6 MODE2, E7 COMP2, F1 VOUT3, F2 PGOOD3, F3 TEMP, F4 INTVCC2, F6 RUN2, G6 TRACK/SS3, G7 FB3, H3 VIN3, H5 SVIN3, H6 MODE3, H7 COMP3, J1 VOUT4, J2 PGOOD4, J3 CLKOUT, J4 INTVCC3, J6 RUN3, J7 FB4, K5 INTVCC4, K6 TRACK/SS4, K7 RUN4, L3 VIN4, L5 SVIN4, L6 MODE4, L7 COMP4

## M25P16-VMN3PB
designator U?
16 Mb (x1) Automotive Serial NOR Flash Memory, 75 MHz, 2.7 to 3.6 V, 8-pin SO8 Narrow (MN), Tube; Part Family: M25P爘ISHIDDEN=T; Manufacturer: Micron; Density: 16Mb爘ISHIDDEN=T; Speed: 75 MHz爘ISHIDDEN=T; Voltage: 2.7V-3.6V爘ISHIDDEN=T; DatasheetVersion: Rev. Y; PackageVersion: Rev 11; PackageReference: MICT-MN-8; PackageDescription: 8-Pin SO Narrow, 3.9 X 4.9 mm, Pitch 1.27 mm; Applications: Automotive爘ISHIDDEN=T; Package: SO8 Narrow爘ISHIDDEN=T; Part Status: Production爘ISHIDDEN=T; RoHS: Yes爘ISHIDDEN=T; Type: Data Storage爘ISHIDDEN=T; Width: x1爘ISHIDDEN=T; Mounting Technology: Surface Mount; PartNumber: M25P16-VMN3PB; ComponentLink1Description: Manufacturer URL; ComponentLink1URL: http://www.micron.com/; ComponentLink2Description: Datasheet; ComponentLink2URL: http://www.micron.com/~/media/Documents/Products/Data%20Sheet/NOR%20Flash/Serial%20NOR/M25P/M25P16.pdf; ComponentLink3Description: Package Specification; ComponentLink3URL: http://www.micron.com/~/media/Documents/Products/Data%20Sheet/NOR%20Flash/Serial%20NOR/M25P/M25P05A.pdf
footprint SO8
pins: 1 S# (in) "Chip select: When the S# input signal is HIGH, the device is deselected and DQ1 is at HIGH impedance. Unless an internal PROGRAM, ERASE, or WRITE STATUS REGISTER cycle is in progress, the device will be in the standby power (See Datasheet)", 2 DQ1 (hiz) "Serial data: The DQ1 output signal is used to transfer data serially out of the device. Data is shifted out on the falling edge of the serial clock (C).", 3 W# (in) "Write protect: The W# input signal is used to freeze the size of the area of memory that is protected against program or erase commands as specified by the values in BP2, BP1, and BP0 bits of the Status Register.", 4 VSS (power) "Ground: Reference for the VCC supply voltage.", 5 DQ0 (in) "Serial data: The DQ0 input signal is used to transfer data serially into the device. It receives commands, addresses, and the data to be programmed. Values are latched on the rising edge of the serial clock (C).", 6 C (in) "Clock: The C input signal provides the timing of the serial interface. Commands, addresses, or data present at serial data input (DQ0) is latched on the rising edge of the serial clock (C). Data on DQ1 changes after the (See Datasheet)", 7 HOLD# (in) "Hold: The HOLD# signal is used to pause any serial communications with the device without deselecting the device. During the hold condition, DQ1 is High-Z. DQ0 and C are "Don抰 Care." To start the hold condition, the device (See Datasheet)", 8 VCC (power) "Device core power supply: Source voltage."

## M3406
designator U?
1.5MHz, 800mA Synchronous Step-Down Converter
footprint SOT23-5 (SOT-23/SC-74A; 5 Leads; Body 3 x 3 mm, inc. leads (LxW max))
pins: 1 EN "Chip Enable Mode Switch", 2 GND "Ground", 3 SW "Switching Output", 4 VIN "Power Input", 5 FB "Output Voltage Sense (Feedback)"

## MarkPoint
designator *
footprint MARK
footprint MARK2
pins: M

## MAX232CPE
designator MAX232CPE?
footprint MAX232CPE
pins: 1 C1+, 2 V+ (power) hidden to V+, 3 C1 -, 4 C2+, 5 C2 -, 6 V- (power) hidden to V-, 7 T2 OUT (out), 8 R2 IN (in), 9 R2 OUT (out), 10 T2 IN (in), 11 T1 IN (in), 12 R1 OUT (out), 13 R1 IN (in), 14 T1 OUT (out), 15 GND (power) hidden to GND, 16 VCC (power) hidden to VCC

## MAX933-8
designator U?, comment MAX933
footprint MAX933-8 (MAX933)
pins: 1 OUTA, 2 V-, 3 INA, 4 INB, 5 HYST, 6 REF, 7 V+, 8 OUTB

## MAX2659
designator U?
GPS/GNSS Low-Noise Amplifier
footprint UDFN-6 (1.5mm x 1.0mm x 0.75mm,  6-pin μDFN package.)
pins: 1 GND, 2 GND, 3 RFIN (in), 4 VCC, 5 ~{SHDN} (in), 6 RFOUT (out)

## MAX3485
designator *
pins: 1 RO, 2 ~{RE}, 3 DE, 4 DI, 5 GND, 6 A, 7 B, 8 VCC

## MAX3490
designator *
footprint SOP-8
pins: 1 VCC, 2 RO, 3 DI, 4 GND, 5 Y, 6 Z, 7 B, 8 A

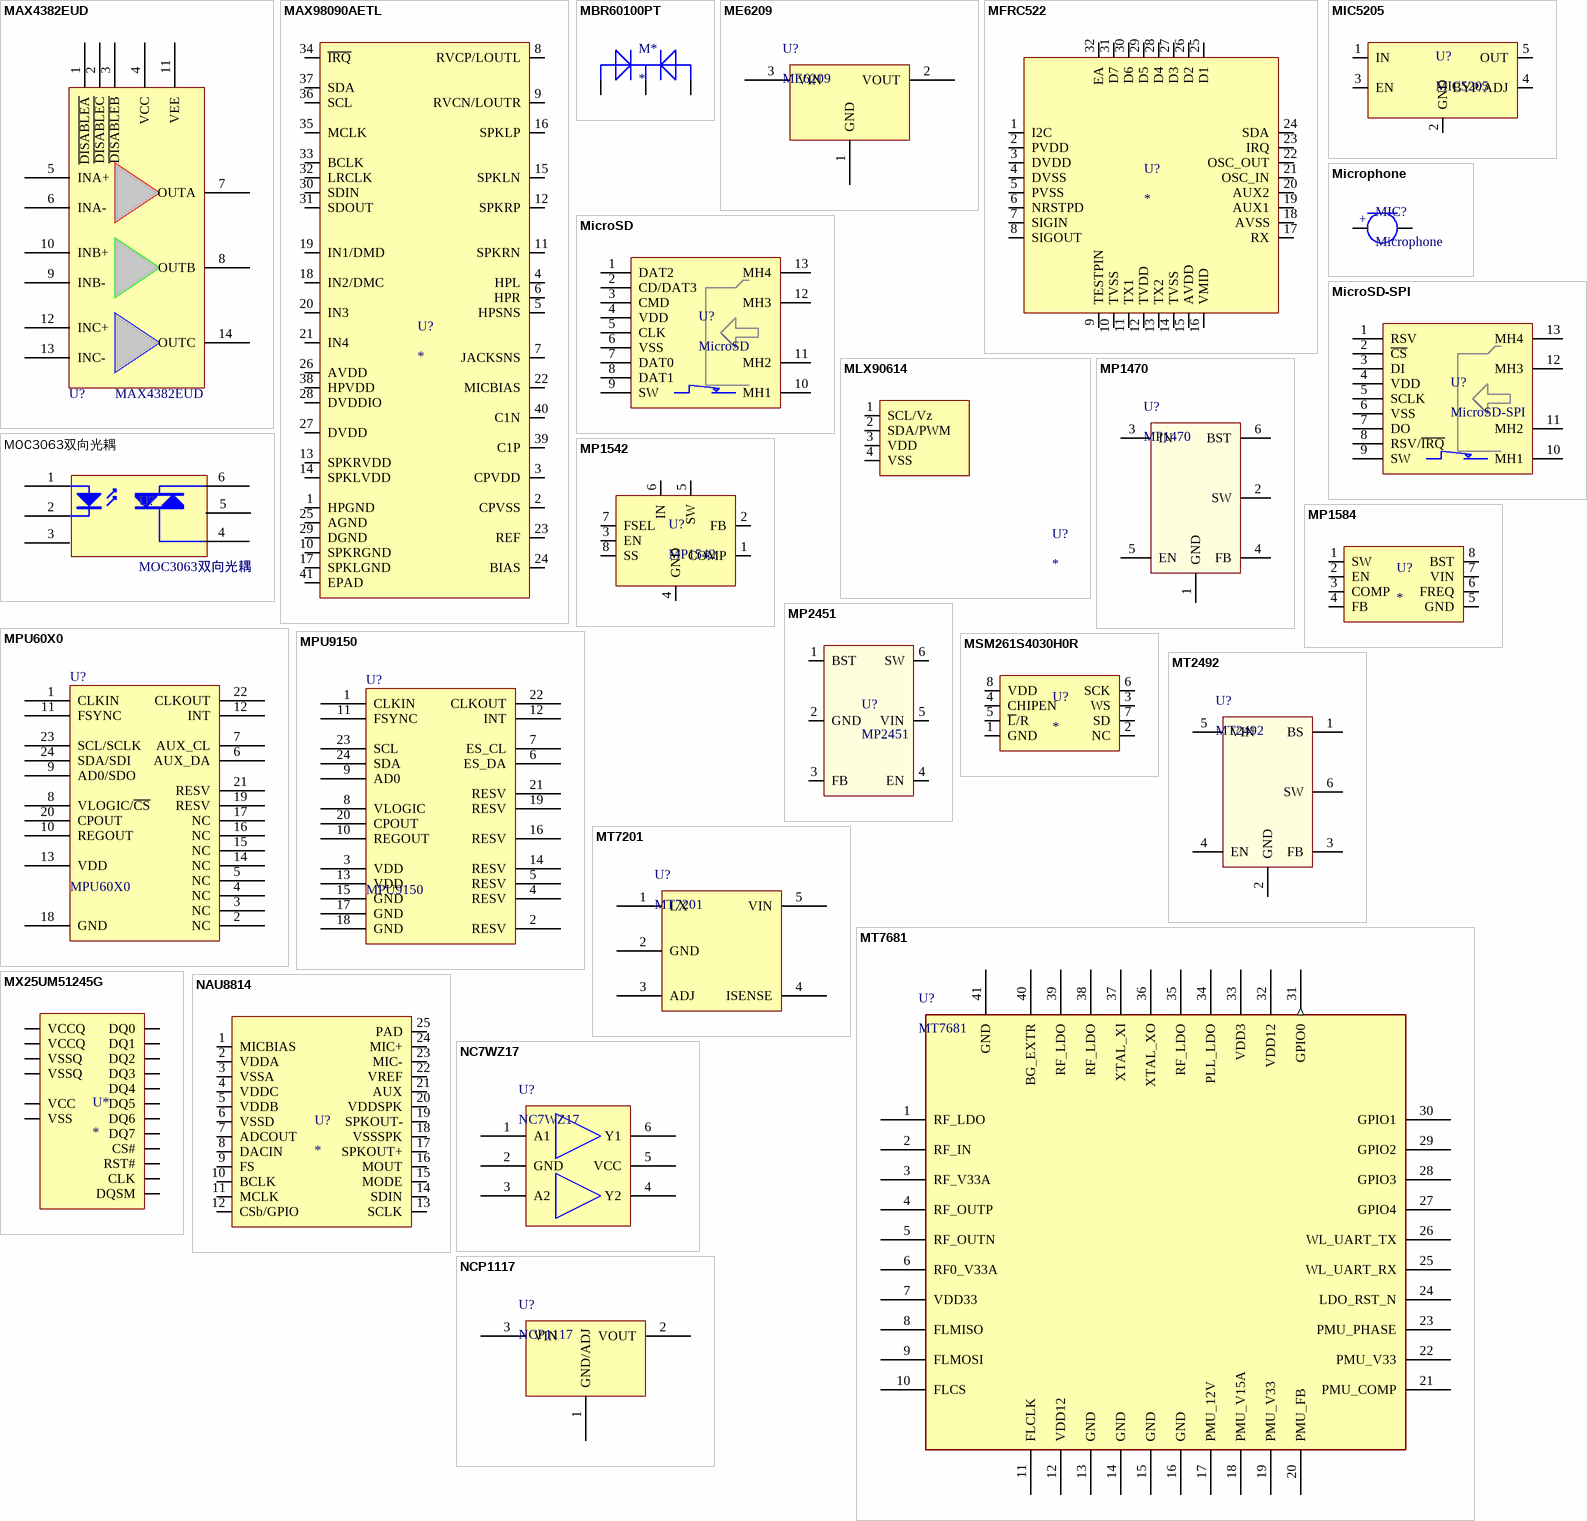
[diagram p17: symbols MAX4382EUD to NCP1117]

## MAX4382EUD
designator U?
footprint TSSOP14
pins: 1 ~{DISABLEA}, 2 ~{DISABLEC}, 3 ~{DISABLEB}, 4 VCC, 5 INA+, 6 INA-, 7 OUTA, 8 OUTB, 9 INB-, 10 INB+, 11 VEE, 12 INC+, 13 INC-, 14 OUTC

## MAX98090AETL
designator U?
footprint TQFN-40 (5X5X0.75mm)
pins: 1 HPGND, 2 CPVSS, 3 CPVDD, 4 HPL, 5 HPSNS, 6 HPR, 7 JACKSNS, 8 RVCP/LOUTL, 9 RVCN/LOUTR, 10 SPKRGND, 11 SPKRN, 12 SPKRP, 13 SPKRVDD, 14 SPKLVDD, 15 SPKLN, 16 SPKLP, 17 SPKLGND, 18 IN2/DMC, 19 IN1/DMD, 20 IN3, 21 IN4, 22 MICBIAS, 23 REF, 24 BIAS, 25 AGND, 26 AVDD, 27 DVDD, 28 DVDDIO, 29 DGND, 30 SDIN, 31 SDOUT, 32 LRCLK, 33 BCLK, 34 ~{IRQ}, 35 MCLK, 36 SCL, 37 SDA, 38 HPVDD, 39 C1P, 40 C1N, 41 EPAD

## MBR60100PT
designator M*
footprint TO-247
pins: 1, 2, 3

## ME6209
designator U?
250mA 18V Low Power Consumption LDO ME6209 Series
footprint SOT23-3 (SOT-23; 3 Leads; Body 3.0 x 2.5 mm, inc. leads (LxW max))
pins: 1 GND "Ground", 2 VOUT "Voltage Output", 3 VIN "Voltage Input"

## MFRC522
designator U?
footprint QFN32_N (32-Pin Quad Flat No-Lead 0.5 mm Pitch, IPC Medium Density)
pins: 1 I2C, 2 PVDD, 3 DVDD, 4 DVSS, 5 PVSS, 6 NRSTPD, 7 SIGIN, 8 SIGOUT, 9 TESTPIN, 10 TVSS, 11 TX1, 12 TVDD, 13 TX2, 14 TVSS, 15 AVDD, 16 VMID, 17 RX, 18 AVSS, 19 AUX1, 20 AUX2, 21 OSC_IN, 22 OSC_OUT, 23 IRQ, 24 SDA, 25 D1, 26 D2, 27 D3, 28 D4, 29 D5, 30 D6, 31 D7, 32 EA

## MIC5205
designator U?
MIC5205,Ultra noise LDO
footprint MIC5205 (SOT-23/SC-74A; 5 Leads; Body 3 x 3 mm, inc. leads (LxW max))
pins: 1 IN, 2 GND, 3 EN, 4 BYP/ADJ, 5 OUT

## Microphone
designator MIC?
footprint Microphone
pins: 1 +, 2 -

## MicroSD
designator U?
footprint MicroSD-1 (MicroSD)
pins: 1 DAT2, 2 CD/DAT3, 3 CMD, 4 VDD, 5 CLK, 6 VSS, 7 DAT0, 8 DAT1, 9 SW, 10 MH1, 11 MH2, 12 MH3, 13 MH4

## MicroSD-SPI
designator U?
footprint MicroSD-1 (MicroSD)
pins: 1 RSV, 2 ~{CS}, 3 DI, 4 VDD, 5 SCLK, 6 VSS, 7 DO, 8 RSV/~{IRQ}, 9 SW, 10 MH1, 11 MH2, 12 MH3, 13 MH4

## MLX90614
designator U?
温度传感器
footprint MLX90614ESF-DCI (温度传感器)
pins: 1 SCL/Vz, 2 SDA/PWM, 3 VDD, 4 VSS

## MOC3063双向光耦
designator U?
footprint MOC3063双向光耦
pins: 1 ANODE, 2 CATHODE, 3 NC, 4 MAIN TERMINAL, 5 SUBSTRATE, 6 MAIN TERMINAL

## MP1470
designator U?
High-Efficiency, 2A, 16V, 500kHz  Synchronous, Step-Down Converter
footprint SOT23-6 (SOT-457/SC-74; 6 Leads; Body 3 x 3 mm, inc. leads (LxW max))
pins: 1 GND, 2 SW, 3 IN, 4 FB, 5 EN, 6 BST

## MP1542
designator U?
footprint SSOP-8 (SSOP, Plastic; 8 Leads; Body Width 5.3 mm; Pitch 0.65 mm)
pins: 1 COMP "Compensation Pin. Connect a capacitor and resistor in series to ground for loop stability.", 2 FB "Feedback Input. Reference voltage is 1.25V. Connect a resistor divider to this pin.", 3 EN "Regulator On/Off Control Input. A high input at EN turns on the converter, and a low input turns  it off. When not used, connect EN to the input source (through a 100kΩ pull-up resistor if VIN >  6V) for automatic startup. EN cannot be left floating.", 4 GND "Ground.", 5 SW "Power Switch Output. SW is the drain of the internal MOSFET switch. Connect the power  inductor and output rectifier to SW. SW can swing between GND and 25V.", 6 IN "Input Supply Pin. IN must be locally bypassed.", 7 FSEL "Frequency Select Pin. Tie to IN (through a 100kΩ resistor if VIN > 6V) for 1.3MHz operation or to  GND for 700KHz operation.", 8 SS "Soft-Start Control Pin. Connect a soft-start capacitor to this pin. The soft-start capacitor is  charged with a constant current of 6μA."

## MP1584
designator U?
DC-DC芯片
footprint SOP-8_M (8-Pin Small Outline Integrated Circuit 1.27 mm Pitch, IPC Low Density)
pins: 1 SW, 2 EN, 3 COMP, 4 FB, 5 GND, 6 FREQ, 7 VIN, 8 BST

## MP2451
designator U?
MP2451-36V, 2MHz, 0.6A, STEP-DOWN CONVERTER
footprint SOT23-6 (SOT-457/SC-74; 6 Leads; Body 3 x 3 mm, inc. leads (LxW max))
pins: 1 BST "Bootstrap. This is the positive power supply for the internal floating high side MOSFET  driver. Connect a bypass capacitor between this pin and SW pin.", 2 GND "Ground. It should be connected as close as possible to the output capacitor avoiding  the high current switch paths.", 3 FB "Feedback. This is the input to the error amplifier. An external resistive divider  connected between the output and GND is compared to the internal +0.8V reference  to set the regulation voltage.", 4 EN "Enable input. Pulling this pin below the specified threshold shuts the chip down. Pulling  it above the specified threshold enables the chip. Floating this pin shuts the chip down.", 5 VIN "Input Supply. This supplies power to all the internal control circuitry, both BS regulators  and the high side switch. A decoupling capacitor to ground is required close to this pin  to reduce switching spikes.", 6 SW "Switch node. This is the output from the high-side switch. A low VF Schottky diode to  ground is required close to this pin to reduce switching spikes."

## MPU60X0
designator U?
MPU60X0 Six-Axis (Gyro + Accelerometer) MEMS
footprint MPU60X0 (24 Lead QFN (4x4x0.9) mm NiPdAu Lead-frame finish)
pins: 1 CLKIN, 2 NC, 3 NC, 4 NC, 5 NC, 6 AUX_DA, 7 AUX_CL, 8 VLOGIC/~{CS}, 9 AD0/SDO, 10 REGOUT, 11 FSYNC, 12 INT, 13 VDD, 14 NC, 15 NC, 16 NC, 17 NC, 18 GND, 19 RESV, 20 CPOUT, 21 RESV, 22 CLKOUT, 23 SCL/SCLK, 24 SDA/SDI

## MPU9150
designator U?
MPU9150 Nine-Axis (Gyro + Accelerometer + Compass) MEMS
footprint MPU9150 (24 Lead QFN (4x4x0.9) mm NiPdAu Lead-frame finish)
pins: 1 CLKIN, 2 RESV, 3 VDD, 4 RESV, 5 RESV, 6 ES_DA, 7 ES_CL, 8 VLOGIC, 9 AD0, 10 REGOUT, 11 FSYNC, 12 INT, 13 VDD, 14 RESV, 15 GND, 16 RESV, 17 GND, 18 GND, 19 RESV, 20 CPOUT, 21 RESV, 22 CLKOUT, 23 SCL, 24 SDA

## MSM261S4030H0R
designator U?
footprint MSM261S4030H0R
pins: 1 GND, 2 NC, 3 WS, 4 CHIPEN, 5 ~{L}/R, 6 SCK, 7 SD, 8 VDD

## MT2492
designator U?
2A,4.5V-16V Input,600kHz  Synchronous Step-Down Converter
footprint SOT23-6 (SOT-457/SC-74; 6 Leads; Body 3 x 3 mm, inc. leads (LxW max))
pins: 1 BS "Bootstrap. A capacitor connected between SW and BS pins is required to form a floating supply across the high-side switch driver.", 2 GND "Analog ground pin.", 3 FB "Adjustable version feedback input. Connect FB to the center point of the external resistor divider.", 4 EN "Drive this pin to a logic-high to enable the IC. Drive to a logic-low to disable the IC and enter micro-power shutdown mode.", 5 VIN "Power supply Pin", 6 SW "Switching Pin"

## MT7201
designator U?
MT7201 1A DC-DC LED Driver
footprint SOT-89-5 (SOT-89-5L SMT PACKAGE)
pins: 1 LX, 2 GND, 3 ADJ, 4 ISENSE, 5 VIN

## MT7681
designator U?
MTK MT7681 IOT SOC
footprint MQFN40 (MQFN, 40-Leads, Body 5x5mm, Pitch 0.4mm, IPC Medium Density)
pins: 1 RF_LDO, 2 RF_IN, 3 RF_V33A, 4 RF_OUTP, 5 RF_OUTN, 6 RF0_V33A, 7 VDD33, 8 FLMISO, 9 FLMOSI, 10 FLCS, 11 FLCLK, 12 VDD12, 13 GND, 14 GND, 15 GND, 16 GND, 17 PMU_12V, 18 PMU_V15A, 19 PMU_V33, 20 PMU_FB, 21 PMU_COMP, 22 PMU_V33, 23 PMU_PHASE, 24 LDO_RST_N, 25 WL_UART_RX, 26 WL_UART_TX, 27 GPIO4, 28 GPIO3, 29 GPIO2, 30 GPIO1, 31 GPIO0 (out), 32 VDD12, 33 VDD3, 34 PLL_LDO, 35 RF_LDO, 36 XTAL_XO, 37 XTAL_XI, 38 RF_LDO, 39 RF_LDO, 40 BG_EXTR, 41 GND

## MX25UM51245G
designator U*
footprint FBGA24
pins: A4 RST#, B2 CLK, B3 VSS, B4 VCC, C1 VSSQ, C2 CS#, C3 DQSM, C4 DQ2, D1 VCCQ, D2 DQ1, D3 DQ0, D4 DQ3, D5 DQ4, E1 DQ7, E2 DQ6, E3 DQ5, E4 VCCQ, E5 VSSQ

## NAU8814
designator U?
音频编解码芯片
footprint QFN_24 (QFN24, 0.5Pitch, 4.0x4.0mm)
pins: 1 MICBIAS, 2 VDDA, 3 VSSA, 4 VDDC, 5 VDDB, 6 VSSD, 7 ADCOUT, 8 DACIN, 9 FS, 10 BCLK, 11 MCLK, 12 CSb/GPIO, 13 SCLK, 14 SDIN, 15 MODE, 16 MOUT, 17 SPKOUT+, 18 VSSSPK, 19 SPKOUT-, 20 VDDSPK, 21 AUX, 22 VREF, 23 MIC-, 24 MIC+, 25 PAD

## NC7WZ17
designator U?
TinyLogic UHS Dual Buffer with Schmitt Trigger Inputs
footprint SC70-6 (SC6 Package. 6-Lead Plastic SC70.)
pins: 1 A1, 2 GND, 3 A2, 4 Y2, 5 VCC, 6 Y1

## NCP1117
designator U?
NCP1117, NCV1117. 1.0 A Low-Dropout Positive  Fixed and Adjustable  Voltage Regulators
footprint SOT-223 (3 LEAD SOT-223 PLASTIC PACKAGE)
pins: 1 GND/ADJ "Ground or Adjust", 2 VOUT "Voltage Output", 3 VIN "Voltage Input"

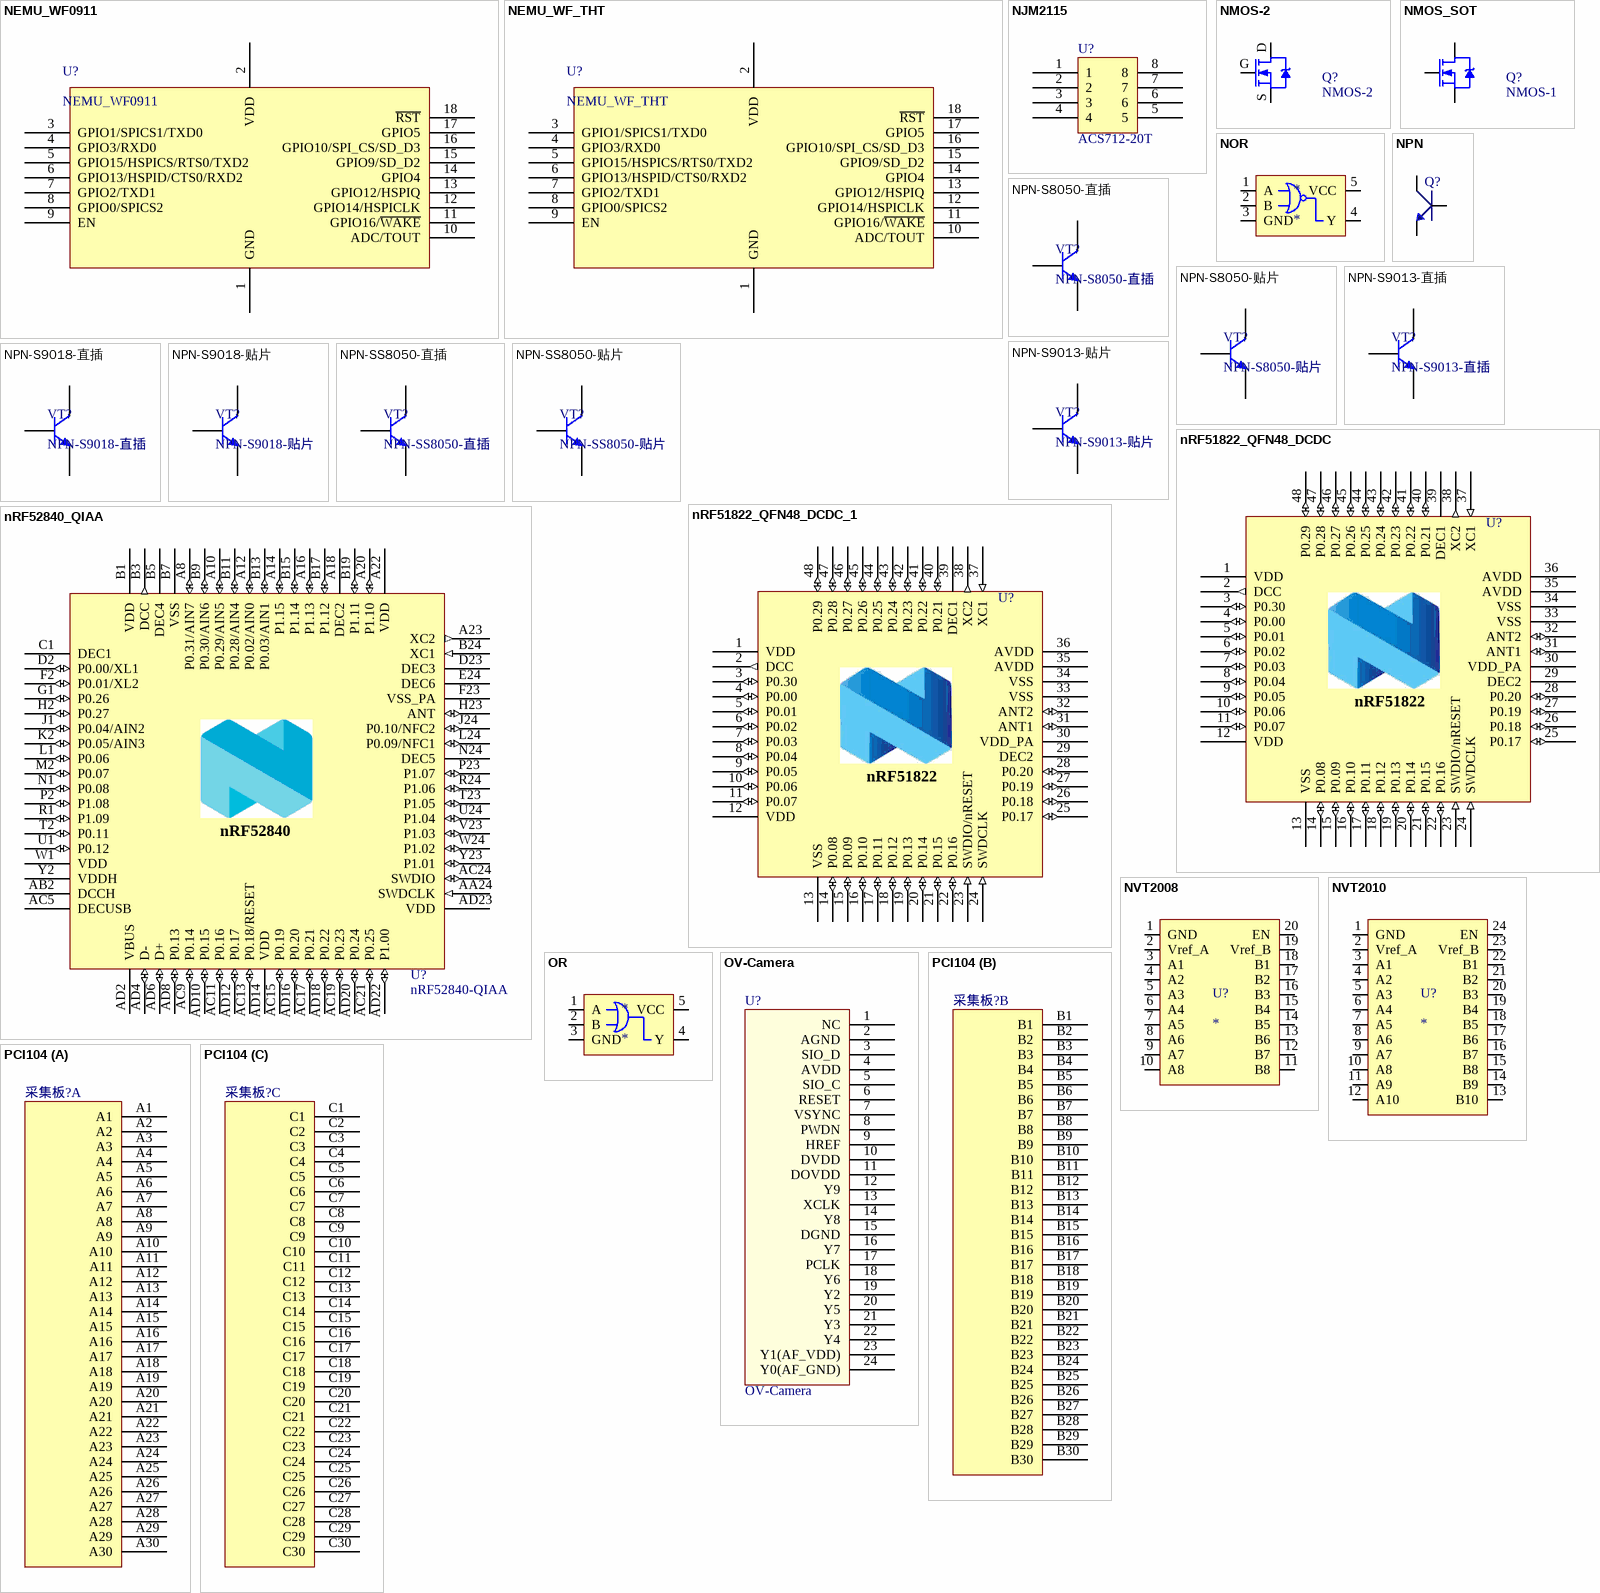
[diagram p18: symbols NEMU_WF0911 to PCI104]

## NEMU_WF0911
designator U?
NEMU_WF0911 Wi-Fi Module by Vowstar Co., Ltd.; IC: ESP8266-EX; Vendor: Vowstar Co., Ltd.
footprint NEMU_WF1006 (NEMU Wi-Fi Module by Vowstar)
pins: 1 GND "Power ground", 2 VDD "Power supply", 3 GPIO1/SPICS1/TXD0 "GPIO1 or UART TXD", 4 GPIO3/RXD0 "GPIO3 or UART RXD", 5 GPIO15/HSPICS/RTS0/TXD2 "GPIO15 or SPICS", 6 GPIO13/HSPID/CTS0/RXD2 "GPIO13 or SPID", 7 GPIO2/TXD1 "GPIO2 or TX", 8 GPIO0/SPICS2 "GPIO0 or SPICS2", 9 EN "Chip enable", 10 ADC/TOUT "ADC Input Or TOUT Output", 11 GPIO16/~{WAKE} "GPIO16 or Deep-Sleep Wakeup", 12 GPIO14/HSPICLK "GPIO14 or SPI CLK", 13 GPIO12/HSPIQ "GPIO12 or SPIQ", 14 GPIO4 "GPIO5", 15 GPIO9/SD_D2 "GPIO13 or SPID", 16 GPIO10/SPI_CS/SD_D3 "GPIO15 or SPICS", 17 GPIO5 "GPIO4", 18 ~{RST} "Reset"

## NEMU_WF_THT
designator U?
NEMU WF1006/0911 Wi-Fi Module, THT Package.; IC: ESP8266-EX; Vendor: Vowstar Co., Ltd.
footprint NEMU_WF1006 (NEMU Wi-Fi Module by Vowstar)
footprint NEMU_WF0911 (NEMU Wi-Fi Module by Vowstar)
pins: 1 GND "Power ground", 2 VDD "Power supply", 3 GPIO1/SPICS1/TXD0 "GPIO1 or UART TXD", 4 GPIO3/RXD0 "GPIO3 or UART RXD", 5 GPIO15/HSPICS/RTS0/TXD2 "GPIO15 or SPICS", 6 GPIO13/HSPID/CTS0/RXD2 "GPIO13 or SPID", 7 GPIO2/TXD1 "GPIO2 or TX", 8 GPIO0/SPICS2 "GPIO0 or SPICS2", 9 EN "Chip enable", 10 ADC/TOUT "ADC Input Or TOUT Output", 11 GPIO16/~{WAKE} "GPIO16 or Deep-Sleep Wakeup", 12 GPIO14/HSPICLK "GPIO14 or SPI CLK", 13 GPIO12/HSPIQ "GPIO12 or SPIQ", 14 GPIO4 "GPIO5", 15 GPIO9/SD_D2 "GPIO13 or SPID", 16 GPIO10/SPI_CS/SD_D3 "GPIO15 or SPICS", 17 GPIO5 "GPIO4", 18 ~{RST} "Reset"

## NJM2115
designator U?, comment ACS712-20T
footprint SOIC8
pins: 1, 2, 3, 4, 5, 6, 7, 8

## NMOS-2
designator Q?
直插TO220AB封装; Note: Pin 2 is electrically connected to pin 4.; Published: 8-Jun-2000; LatestRevisionDate: 17-Jul-2002; LatestRevisionNote: Re-released for DXP Platform.; DatasheetVersion: PD-9.814; PackageReference: TO-220AB; Publisher: Altium Limited; Code_JEDEC: TO-220-AB; ComponentLink1Description: Manufacturer Link; ComponentLink1URL: http://www.irf.com/
footprint TO-220AB (TO, Thru-Hole, Vertical, Heatsink Mounted; 3 In-Line Leads; Pitch 2.54 mm)
pins: D, G, S

## NMOS_SOT
designator Q?, comment NMOS-1
SOT封装; Note: Pin 2 is electrically connected to pin 4.; Published: 8-Jun-2000; LatestRevisionDate: 17-Jul-2002; LatestRevisionNote: Re-released for DXP Platform.; DatasheetVersion: PD-9.814; PackageReference: TO-220AB; Publisher: Altium Limited; Code_JEDEC: TO-220-AB; ComponentLink1Description: Manufacturer Link; ComponentLink1URL: http://www.irf.com/
footprint SOT-23
pins: 1 G, 2 S, 3 D

## NOR
designator *
footprint SOT-23-5
pins: 1 A, 2 B, 3 GND, 4 Y, 5 VCC

## NPN
designator Q?
footprint SOT-23N
pins: 1 b, 2 e, 3 c

## NPN-S8050-直插
designator VT?
footprint NPN-S8050-直插
pins: 1 E, 2 B, 3 C

## NPN-S8050-贴片
designator VT?
footprint NPN-S8050-贴片
pins: 1 B, 2 E, 3 C

## NPN-S9013-直插
designator VT?
footprint NPN-S9013-直插
pins: 1 E, 2 B, 3 C

## NPN-S9013-贴片
designator VT?
footprint NPN-S9013-贴片
pins: 1 B, 2 E, 3 C

## NPN-S9018-直插
designator VT?
footprint NPN-S9018-直插
pins: 1 E, 2 B, 3 C

## NPN-S9018-贴片
designator VT?
footprint NPN-S9018-贴片
pins: 1 B, 2 E, 3 C

## NPN-SS8050-直插
designator VT?
footprint NPN-SS8050-直插
pins: 1 E, 2 B, 3 C

## NPN-SS8050-贴片
designator VT?
footprint NPN-SS8050-贴片
pins: 1 B, 2 E, 3 C

## nRF51822_QFN48_DCDC
designator U?, comment nRF51822-QFAA  (value not drawn)
Multi-protocol Bluetooth Low Energy and 2.4GHz proprietary system-on-chip; Part Number: nRF51822-Q48-6x6_DCDC; Manufacturer: Nordic Semiconductor; Note: nRF51822 - QFN48 6x6 0.4mm pitch; Artikkelnr Noca: 15079200; Manufacturer Part Number: nRF51822-QFAA; Datasheet: *; Footprint: QFN-48; LatestRevisionDate: 2012-07-10; Pin Count: 48; Publisher: Nordic Semiconductor; Published: 2012-07-08; Value: nRF51822-QFAA; Supplier: Nordic Semiconductor; Supplier part number: *; 2nd source Supplier: *; 2nd source part number: *
footprint QFN40P600X600X90-48N
pins: 1 VDD (power), 2 DCC (out), 3 P0.30 (io), 4 P0.00 (io), 5 P0.01 (io), 6 P0.02 (io), 7 P0.03 (io), 8 P0.04 (io), 9 P0.05 (io), 10 P0.06 (io), 11 P0.07 (io), 12 VDD (power), 13 VSS (power), 14 P0.08 (io), 15 P0.09 (io), 16 P0.10 (io), 17 P0.11 (io), 18 P0.12 (io), 19 P0.13 (io), 20 P0.14 (io), 21 P0.15 (io), 22 P0.16 (io), 23 SWDIO/nRESET (in), 24 SWDCLK (in), 25 P0.17 (io), 26 P0.18 (io), 27 P0.19 (io), 28 P0.20 (io), 29 DEC2 (power), 30 VDD_PA (power), 31 ANT1 (io), 32 ANT2 (io), 33 VSS (power), 34 VSS (power), 35 AVDD (power), 36 AVDD (power), 37 XC1 (in), 38 XC2 (out), 39 DEC1 (power), 40 P0.21 (io), 41 P0.22 (io), 42 P0.23 (io), 43 P0.24 (io), 44 P0.25 (io), 45 P0.26 (io), 46 P0.27 (io), 47 P0.28 (io), 48 P0.29 (io), 49 (power) hidden to GND
text: nRF51822

## nRF51822_QFN48_DCDC_1
designator U?, comment nRF51822-QFAA  (value not drawn)
Multi-protocol Bluetooth Low Energy and 2.4GHz proprietary system-on-chip; Part Number: nRF51822-Q48-6x6_DCDC; Manufacturer: Nordic Semiconductor; Note: nRF51822 - QFN48 6x6 0.4mm pitch; Artikkelnr Noca: 15079200; Manufacturer Part Number: nRF51822-QFAA; Datasheet: *; Footprint: QFN-48; LatestRevisionDate: 2012-07-10; Pin Count: 48; Publisher: Nordic Semiconductor; Published: 2012-07-08; Value: nRF51822-QFAA; Supplier: Nordic Semiconductor; Supplier part number: *; 2nd source Supplier: *; 2nd source part number: *
footprint QFN40P600X600X90-48N
pins: 1 VDD (power), 2 DCC (out), 3 P0.30 (io), 4 P0.00 (io), 5 P0.01 (io), 6 P0.02 (io), 7 P0.03 (io), 8 P0.04 (io), 9 P0.05 (io), 10 P0.06 (io), 11 P0.07 (io), 12 VDD (power), 13 VSS (power), 14 P0.08 (io), 15 P0.09 (io), 16 P0.10 (io), 17 P0.11 (io), 18 P0.12 (io), 19 P0.13 (io), 20 P0.14 (io), 21 P0.15 (io), 22 P0.16 (io), 23 SWDIO/nRESET (in), 24 SWDCLK (in), 25 P0.17 (io), 26 P0.18 (io), 27 P0.19 (io), 28 P0.20 (io), 29 DEC2 (power), 30 VDD_PA (power), 31 ANT1 (io), 32 ANT2 (io), 33 VSS (power), 34 VSS (power), 35 AVDD (power), 36 AVDD (power), 37 XC1 (in), 38 XC2 (out), 39 DEC1 (power), 40 P0.21 (io), 41 P0.22 (io), 42 P0.23 (io), 43 P0.24 (io), 44 P0.25 (io), 45 P0.26 (io), 46 P0.27 (io), 47 P0.28 (io), 48 P0.29 (io), 49 (power) hidden to GND
text: nRF51822

## nRF52840_QIAA
designator U?, comment nRF52840-QIAA
Multi-protocol Bluetooth Low Energy, IEEE 802.15.4, ANT and 2.4GHz proprietary system-on-chip; Part Number: nRF52840-QIAAC0; Manufacturer: Nordic Semiconductor; LatestRevisionDate: 2018-02-27; Pin Count: 73; Publisher: Nordic Semiconductor; Published: 2017-08-21; Value: nRF52840-QIAA; Note: *; Footprint Doc: AQFN-73; Manufacturer Part Number: nRF52840-QIAAC0
footprint NRF52840
pins: 74 GND (power) hidden to GND, A8 P0.31/AIN7 (io), A10 P0.29/AIN5 (io), A12 P0.02/AIN0 (io), A14 P1.15 (io), A16 P1.13 (io), A18 DEC2 (power), A20 P1.10 (io), A22 VDD (power), A23 XC2 (out), AA24 SWDCLK (in), AB2 DCCH (power), AC5 DECUSB (power), AC9 P0.14 (io), AC11 P0.16 (io), AC13 P0.18/RESET (io), AC15 P0.19 (io), AC17 P0.21 (io), AC19 P0.23 (io), AC21 P0.25 (io), AC24 SWDIO (io), AD2 VBUS (power), AD4 D- (io), AD6 D+ (io), AD8 P0.13 (io), AD10 P0.15 (io), AD12 P0.17 (io), AD14 VDD (power), AD16 P0.20 (io), AD18 P0.22 (io), AD20 P0.24 (io), AD22 P1.00 (io), AD23 VDD (power), B1 VDD (power), B3 DCC (out), B5 DEC4 (power), B7 VSS (power), B9 P0.30/AIN6 (io), B11 P0.28/AIN4 (io), B13 P0.03/AIN1 (io), B15 P1.14 (io), B17 P1.12 (io), B19 P1.11 (io), B24 XC1 (in), C1 DEC1 (power), D2 P0.00/XL1 (io), D23 DEC3 (power), E24 DEC6 (power), F2 P0.01/XL2 (io), F23 VSS_PA (power), G1 P0.26 (io), H2 P0.27 (io), H23 ANT (io), J1 P0.04/AIN2 (io), J24 P0.10/NFC2 (io), K2 P0.05/AIN3 (io), L1 P0.06 (io), L24 P0.09/NFC1 (io), M2 P0.07 (io), N1 P0.08 (io), N24 DEC5 (power), P2 P1.08 (io), P23 P1.07 (io), R1 P1.09 (io), R24 P1.06 (io), T2 P0.11 (io), T23 P1.05 (io), U1 P0.12 (io), U24 P1.04 (io), V23 P1.03 (io), W1 VDD (power), W24 P1.02 (io), Y2 VDDH (power), Y23 P1.01 (io)
text: nRF52840

## NVT2008
designator U?
8位双向电压电平转换器
footprint TSSOP-20 (SSOP; 20 Leads; Body Width 3.9 mm; Pitch 0.64 mm)
pins: 1 GND, 2 Vref_A, 3 A1, 4 A2, 5 A3, 6 A4, 7 A5, 8 A6, 9 A7, 10 A8, 11 B8, 12 B7, 13 B6, 14 B5, 15 B4, 16 B3, 17 B2, 18 B1, 19 Vref_B, 20 EN

## NVT2010
designator U?
10位双向电压电平转换器
footprint TSSOP-24
pins: 1 GND, 2 Vref_A, 3 A1, 4 A2, 5 A3, 6 A4, 7 A5, 8 A6, 9 A7, 10 A8, 11 A9, 12 A10, 13 B10, 14 B9, 15 B8, 16 B7, 17 B6, 18 B5, 19 B4, 20 B3, 21 B2, 22 B1, 23 Vref_B, 24 EN

## OR
designator *
footprint SOT-23-5
pins: 1 A, 2 B, 3 GND, 4 Y, 5 VCC

## OV-Camera
designator U?
OV9650/OV2460/OV3640/OV5640
footprint OV-Camera (OV9650/OV2460/OV3640/OV5640)
pins: 1 NC, 2 AGND, 3 SIO_D, 4 AVDD, 5 SIO_C, 6 RESET, 7 VSYNC, 8 PWDN, 9 HREF, 10 DVDD, 11 DOVDD, 12 Y9, 13 XCLK, 14 Y8, 15 DGND, 16 Y7, 17 PCLK, 18 Y6, 19 Y2, 20 Y5, 21 Y3, 22 Y4, 23 Y1(AF_VDD), 24 Y0(AF_GND)

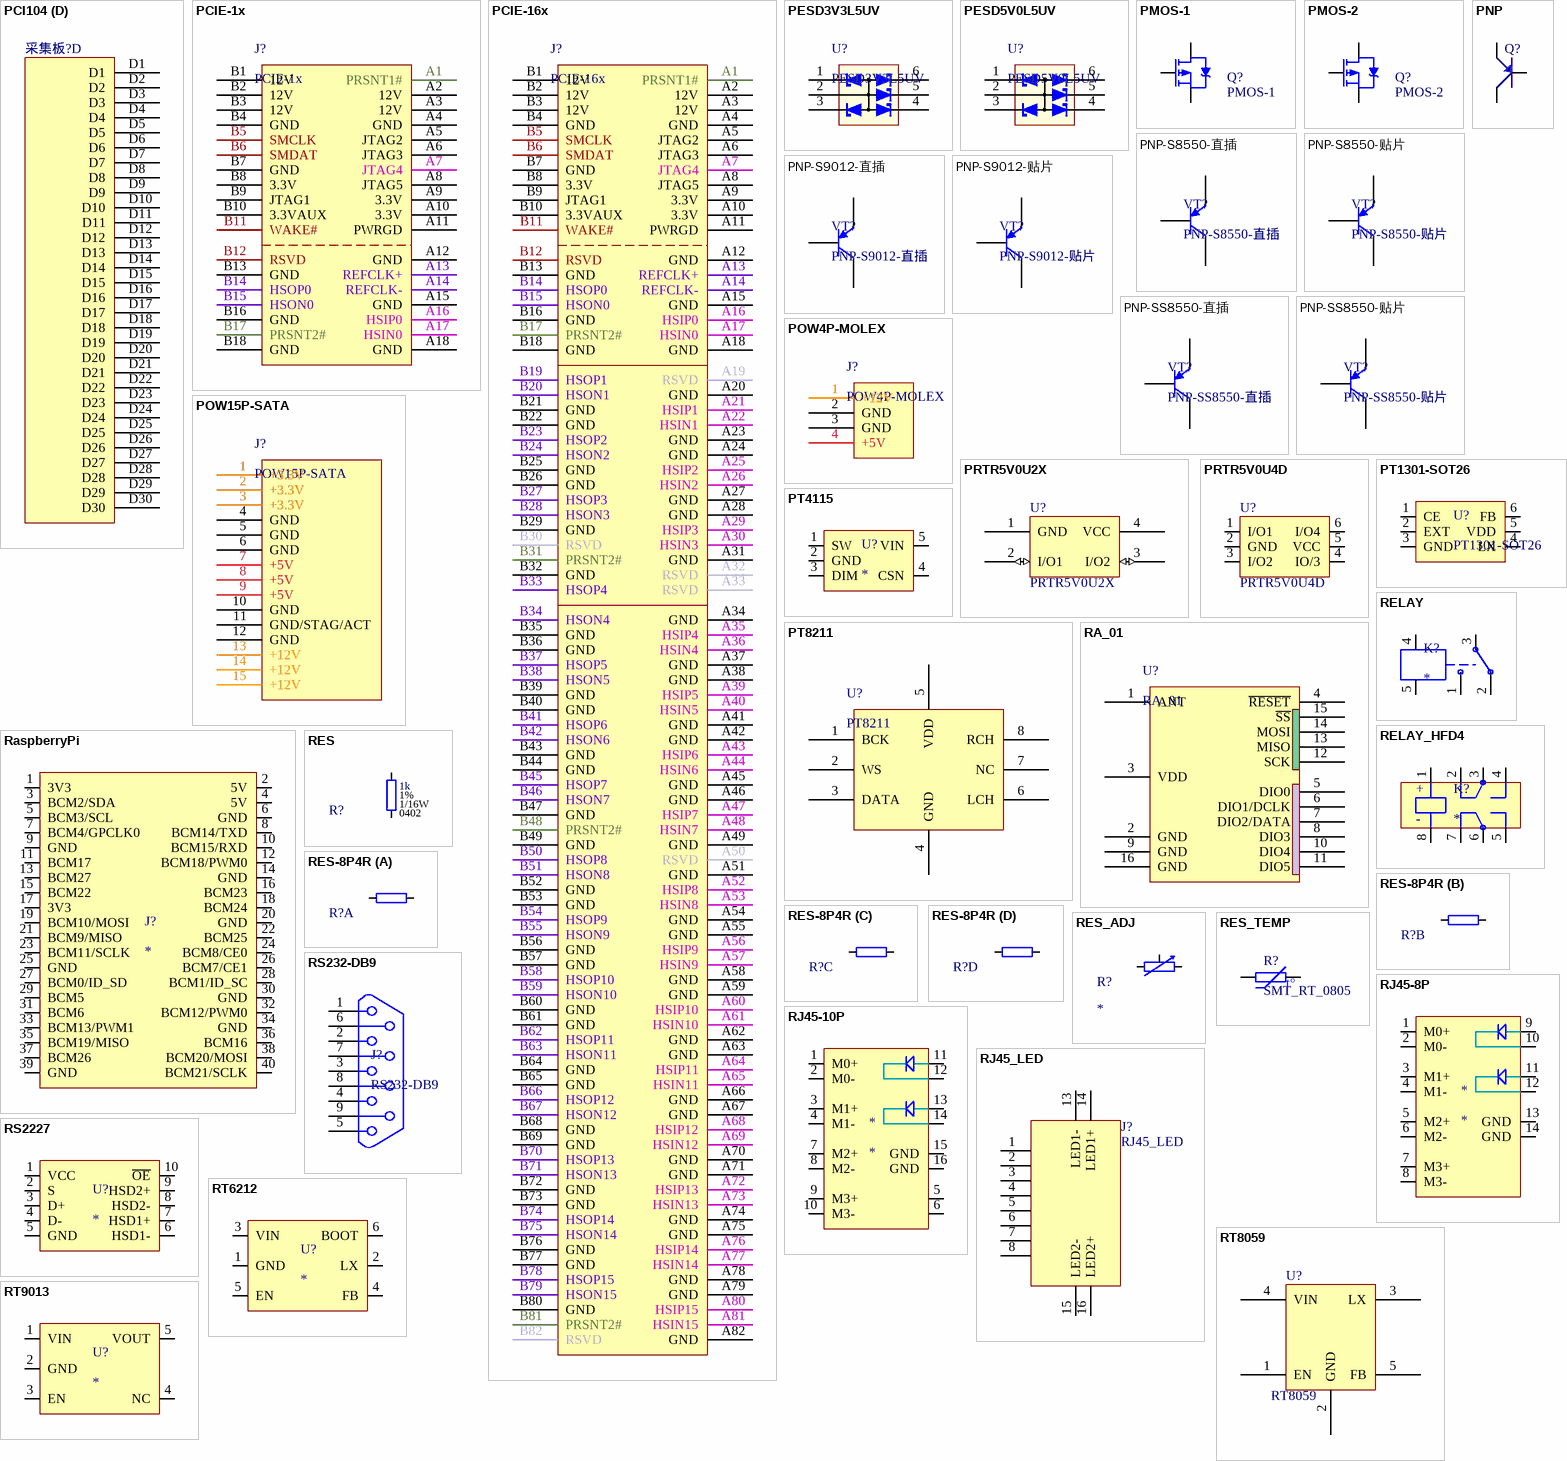
[diagram p19: symbols PCI104 to RT9013]

## PCI104
designator 采集板?
footprint PCI104-1
part A pins: A1, A2, A3, A4, A5, A6, A7, A8, A9, A10, A11, A12, A13, A14, A15, A16, A17, A18, A19, A20, A21, A22, A23, A24, A25, A26, A27, A28, A29, A30
part B pins: B1, B2, B3, B4, B5, B6, B7, B8, B9, B10, B11, B12, B13, B14, B15, B16, B17, B18, B19, B20, B21, B22, B23, B24, B25, B26, B27, B28, B29, B30
part C pins: C1, C2, C3, C4, C5, C6, C7, C8, C9, C10, C11, C12, C13, C14, C15, C16, C17, C18, C19, C20, C21, C22, C23, C24, C25, C26, C27, C28, C29, C30
part D pins: D1, D2, D3, D4, D5, D6, D7, D8, D9, D10, D11, D12, D13, D14, D15, D16, D17, D18, D19, D20, D21, D22, D23, D24, D25, D26, D27, D28, D29, D30

## PCIE-1x
designator J?
footprint PCIE-1x
pins: A1 PRSNT1# "Hot plug presence detect", A2 12V "+12 volt power", A3 12V "+12 volt power", A4 GND "Ground", A5 JTAG2 "TCK", A6 JTAG3 "TDI", A7 JTAG4 "TDO", A8 JTAG5 "TMS", A9 3.3V "+3.3 volt power", A10 3.3V "+3.3 volt power", A11 PWRGD "Power Good", A12 GND "Ground", A13 REFCLK+ "Reference Clock", A14 REFCLK- "Differential pair", A15 GND "Ground", A16 HSIP0 "Receiver Lane 0,", A17 HSIN0 "Differential pair", A18 GND "Ground", B1 12V "+12 volt power", B2 12V "+12 volt power", B3 12V "+12 volt power", B4 GND "Ground", B5 SMCLK "SMBus clock", B6 SMDAT "SMBus data", B7 GND "Ground", B8 3.3V "+3.3 volt power", B9 JTAG1 "+TRST#", B10 3.3VAUX "3.3v volt power", B11 WAKE# "Link Reactivation", B12 RSVD "Reserved", B13 GND "Ground", B14 HSOP0 "Transmitter Lane 0,", B15 HSON0 "Differential pair", B16 GND "Ground", B17 PRSNT2# "Hotplug detect", B18 GND "Ground"

## PCIE-16x
designator J?
footprint PCIE-16x-TH (PCIE-16x)
footprint PCIE-16x-TH-LONG (PCIE-16x)
pins: A1 PRSNT1# "Hot plug presence detect", A2 12V "+12 volt power", A3 12V "+12 volt power", A4 GND "Ground", A5 JTAG2 "TCK", A6 JTAG3 "TDI", A7 JTAG4 "TDO", A8 JTAG5 "TMS", A9 3.3V "+3.3 volt power", A10 3.3V "+3.3 volt power", A11 PWRGD "Power Good", A12 GND "Ground", A13 REFCLK+ "Reference Clock", A14 REFCLK- "Differential pair", A15 GND "Ground", A16 HSIP0 "Receiver Lane 0,", A17 HSIN0 "Differential pair", A18 GND "Ground", A19 RSVD "Reserved", A20 GND "Ground", A21 HSIP1 "Receiver Lane 1,", A22 HSIN1 "Differential pair", A23 GND "Ground", A24 GND "Ground", A25 HSIP2 "Receiver Lane 2,", A26 HSIN2 "Differential pair", A27 GND "Ground", A28 GND "Ground", A29 HSIP3 "Receiver Lane 3,", A30 HSIN3 "Differential pair", A31 GND "Ground", A32 RSVD "Reserved", A33 RSVD "Reserved", A34 GND "Ground", A35 HSIP4 "Receiver Lane 4,", A36 HSIN4 "Differential pair", A37 GND "Ground", A38 GND "Ground", A39 HSIP5 "Receiver Lane 5,", A40 HSIN5 "Differential pair", A41 GND "Ground", A42 GND "Ground", A43 HSIP6 "Receiver Lane 6,", A44 HSIN6 "Differential pair", A45 GND "Ground", A46 GND "Ground", A47 HSIP7 "Receiver Lane 7,", A48 HSIN7 "Differential pair", A49 GND "Ground", A50 RSVD "Reserved", A51 GND "Ground", A52 HSIP8 "Receiver Lane 8,", A53 HSIN8 "Differential pair", A54 GND "Ground", A55 GND "Ground", A56 HSIP9 "Receiver Lane 9,", A57 HSIN9 "Differential pair", A58 GND "Ground", A59 GND "Ground", A60 HSIP10 "Receiver Lane 10,", A61 HSIN10 "Differential pair", A62 GND "Ground", A63 GND "Ground", A64 HSIP11 "Receiver Lane 11,", A65 HSIN11 "Differential pair", A66 GND "Ground", A67 GND "Ground", A68 HSIP12 "Receiver Lane 12,", A69 HSIN12 "Differential pair", A70 GND "Ground", A71 GND "Ground", A72 HSIP13 "Receiver Lane 13,", A73 HSIN13 "Differential pair", A74 GND "Ground", A75 GND "Ground", A76 HSIP14 "Receiver Lane 14,", A77 HSIN14 "Differential pair", A78 GND "Ground", A79 GND "Ground", A80 HSIP15 "Receiver Lane 15,", A81 HSIN15 "Differential pair", A82 GND "Ground", B1 12V "+12 volt power", B2 12V "+12 volt power", B3 12V "+12 volt power", B4 GND "Ground", B5 SMCLK "SMBus clock", B6 SMDAT "SMBus data", B7 GND "Ground", B8 3.3V "+3.3 volt power", B9 JTAG1 "+TRST#", B10 3.3VAUX "3.3v volt power", B11 WAKE# "Link Reactivation", B12 RSVD "Reserved", B13 GND "Ground", B14 HSOP0 "Transmitter Lane 0,", B15 HSON0 "Differential pair", B16 GND "Ground", B17 PRSNT2# "Hotplug detect", B18 GND "Ground", B19 HSOP1 "Transmitter Lane 1,", B20 HSON1 "Differential pair", B21 GND "Ground", B22 GND "Ground", B23 HSOP2 "Transmitter Lane 2,", B24 HSON2 "Differential pair", B25 GND "Ground", B26 GND "Ground", B27 HSOP3 "Transmitter Lane 3,", B28 HSON3 "Differential pair", B29 GND "Ground", B30 RSVD "Reserved", B31 PRSNT2# "Hot plug detect", B32 GND "Ground", B33 HSOP4 "Transmitter Lane 4,", B34 HSON4 "Differential pair", B35 GND "Ground", B36 GND "Ground", B37 HSOP5 "Transmitter Lane 5,", B38 HSON5 "Differential pair", B39 GND "Ground", B40 GND "Ground", B41 HSOP6 "Transmitter Lane 6,", B42 HSON6 "Differential pair", B43 GND "Ground", B44 GND "Ground", B45 HSOP7 "Transmitter Lane 7,", B46 HSON7 "Differential pair", B47 GND "Ground", B48 PRSNT2# "Hot plug detect", B49 GND "Ground", B50 HSOP8 "Transmitter Lane 8,", B51 HSON8 "Differential pair", B52 GND "Ground", B53 GND "Ground", B54 HSOP9 "Transmitter Lane 9,", B55 HSON9 "Differential pair", B56 GND "Ground", B57 GND "Ground", B58 HSOP10 "Transmitter Lane 10,", B59 HSON10 "Differential pair", B60 GND "Ground", B61 GND "Ground", B62 HSOP11 "Transmitter Lane 11,", B63 HSON11 "Differential pair", B64 GND "Ground", B65 GND "Ground", B66 HSOP12 "Transmitter Lane 12,", B67 HSON12 "Differential pair", B68 GND "Ground", B69 GND "Ground", B70 HSOP13 "Transmitter Lane 13,", B71 HSON13 "Differential pair", B72 GND "Ground", B73 GND "Ground", B74 HSOP14 "Transmitter Lane 14,", B75 HSON14 "Differential pair", B76 GND "Ground", B77 GND "Ground", B78 HSOP15 "Transmitter Lane 15,", B79 HSON15 "Differential pair", B80 GND "Ground", B81 PRSNT2# "Hot plug present detect", B82 RSVD "Reserved/Hot Plug Detect"

## PESD3V3L5UV
designator U?
Low capacitance 5-fold ESD protection  diode arrays in SOT666 package
footprint SOT666 (SOP, 6-Flat Leads, Body 1.6x1.6x0.6mm, inc leads (LxWxH typ), Pitch 0.5mm, ST Recommended)
pins: 1, 2, 3, 4, 5, 6

## PESD5V0L5UV
designator U?
Low capacitance 5-fold ESD protection  diode arrays in SOT666 package
footprint SOT666 (SOP, 6-Flat Leads, Body 1.6x1.6x0.6mm, inc leads (LxWxH typ), Pitch 0.5mm, ST Recommended)
pins: 1, 2, 3, 4, 5, 6

## PMOS-1
designator Q?
SOT23; Note: Pin 4 not drawn and electrically connected to Pin 2.; Published: 8-Jun-2000; LatestRevisionDate: 17-Jul-2002; LatestRevisionNote: Re-released for DXP Platform.; DatasheetVersion: PD-9.390D; PackageReference: TO-220AB; Publisher: Altium Limited; Code_JEDEC: TO-220-AB; ComponentLink1Description: Manufacturer Link; ComponentLink1URL: http://www.irf.com/
footprint SOT-23
pins: 1 G, 2 S, 3 D

## PMOS-2
designator Q?
TO-220AB; Note: Pin 4 not drawn and electrically connected to Pin 2.; Published: 8-Jun-2000; LatestRevisionDate: 17-Jul-2002; LatestRevisionNote: Re-released for DXP Platform.; DatasheetVersion: PD-9.390D; PackageReference: TO-220AB; Publisher: Altium Limited; Code_JEDEC: TO-220-AB; ComponentLink1Description: Manufacturer Link; ComponentLink1URL: http://www.irf.com/
footprint TO-220AB (TO, Thru-Hole, Vertical, Heatsink Mounted; 3 In-Line Leads; Pitch 2.54 mm)
footprint TO-263 D2PAK (D2-PAK/TO-263-AB; 3 Leads (1 Cropped); Body 15.5 (inc. leads) x 10.5 mm (LxW max))
pins: 1 G, 2 D, 3 S

## PNP
designator Q?
footprint SOT-23N
pins: 1 b, 2 c, 3 e

## PNP-S8550-直插
designator VT?
footprint PNP-S8550-直插
pins: 1 E, 2 B, 3 C

## PNP-S8550-贴片
designator VT?
footprint PNP-S8550-贴片
pins: 1 B, 2 E, 3 C

## PNP-S9012-直插
designator VT?
footprint PNP-S9012-直插
pins: 1 E, 2 B, 3 C

## PNP-S9012-贴片
designator VT?
footprint PNP-S9012-贴片
pins: 1 B, 2 E, 3 C

## PNP-SS8550-直插
designator VT?
footprint PNP-SS8550-直插
pins: 1 E, 2 B, 3 C

## PNP-SS8550-贴片
designator VT?
footprint PNP-SS8550-贴片
pins: 1 B, 2 E, 3 C

## POW4P-MOLEX
designator J?
4P power connector for hard drive or floppy
footprint POW4P-MOLEX (4P power connector for hard drive or floppy)
footprint POW4P-MOLEX-BENT (4P power connector for hard drive or floppy)
pins: 1 +12V, 2 GND, 3 GND, 4 +5V

## POW15P-SATA
designator J?
15P power connector for serial ata interface
footprint POW15P-SATA (15P power connector for serial ata interface)
footprint POW15P-SATA-BENT (15P power connector for serial ata interface)
pins: 1 +3.3V, 2 +3.3V, 3 +3.3V, 4 GND, 5 GND, 6 GND, 7 +5V, 8 +5V, 9 +5V, 10 GND, 11 GND/STAG/ACT, 12 GND, 13 +12V, 14 +12V, 15 +12V

## PRTR5V0U2X
designator U?
Ultra low capacitance double rail-to-rail ESD protection diode
footprint SOT143L (SOT143, 4-Leads, Body 2.9x1.3mm, Pitch 1.9mm, Lead Span 2.5mm, IPC High Density)
footprint sot143m (SOT143, 4-Leads, Body 2.9x1.3mm, Pitch 1.9mm, Lead Span 2.5mm, IPC Low Density)
footprint sot143n (SOT143, 4-Leads, Body 2.9x1.3mm, Pitch 1.9mm, Lead Span 2.5mm, IPC Medium Density)
pins: 1 GND (power) "ground", 2 I/O1 (io) "input/output 1", 3 I/O2 (io) "input/output 1", 4 VCC (power) "supply voltage"

## PRTR5V0U4D
designator U?
Ultra low capacitance double rail-to-rail ESD protection diode
footprint SOT457
pins: 1 I/O1, 2 GND (power) "ground", 3 I/O2 (power) "ground", 4 IO/3 (power) "ground", 5 VCC (power) "ground", 6 I/O4 (power) "ground"

## PT1301-SOT26
designator U?
footprint PT1301-SOT26
pins: 1 CE, 2 EXT, 3 GND, 4 LX, 5 VDD, 6 FB

## PT4115
designator U?
LED恒流驱动器
footprint SOT-89-5 (SOT-89-5L SMT PACKAGE)
pins: 1 SW, 2 GND, 3 DIM, 4 CSN, 5 VIN

## PT8211
designator U?
Stereo Continuous Calibration DAC
footprint SOP-8_N (8-Pin Small Outline Integrated Circuit 1.27 mm Pitch, IPC Medium Density)
pins: 1 BCK "bit clock input", 2 WS "word select input", 3 DATA "data input", 4 GND "ground", 5 VDD "supply voltage", 6 LCH "left channel output", 7 NC "not connected", 8 RCH "right channel output"

## RA_01
designator U?
RA_01 LoRa Module by AI-Thinker; IC: SX1278; Vendor: Ai-thinker
footprint RA_01 (RA_01 LoRa Module by AI-Thinker)
pins: 1 ANT "RF Input and RF output for bands 2&3", 2 GND "Exposed ground pad", 3 VDD "Power Supply voltage", 4 ~{RESET} "Reset trigger input", 5 DIO0 "Digital I/O, software configured", 6 DIO1/DCLK "Digital I/O, software configured", 7 DIO2/DATA "Digital I/O, software configured", 8 DIO3 "Digital I/O, software configured", 9 GND "Exposed ground pad", 10 DIO4 "Digital I/O, software configured", 11 DIO5 "Digital I/O, software configured", 12 SCK "SPI Clock input", 13 MISO "SPI Data output", 14 MOSI "SPI Data input", 15 ~{SS} "SPI Chip select input", 16 GND "Exposed ground pad"